# Altium schematic symbol library dungvh03-CERN_AnalogInterface.SchLib: 1053 symbols (part 8 of 12)
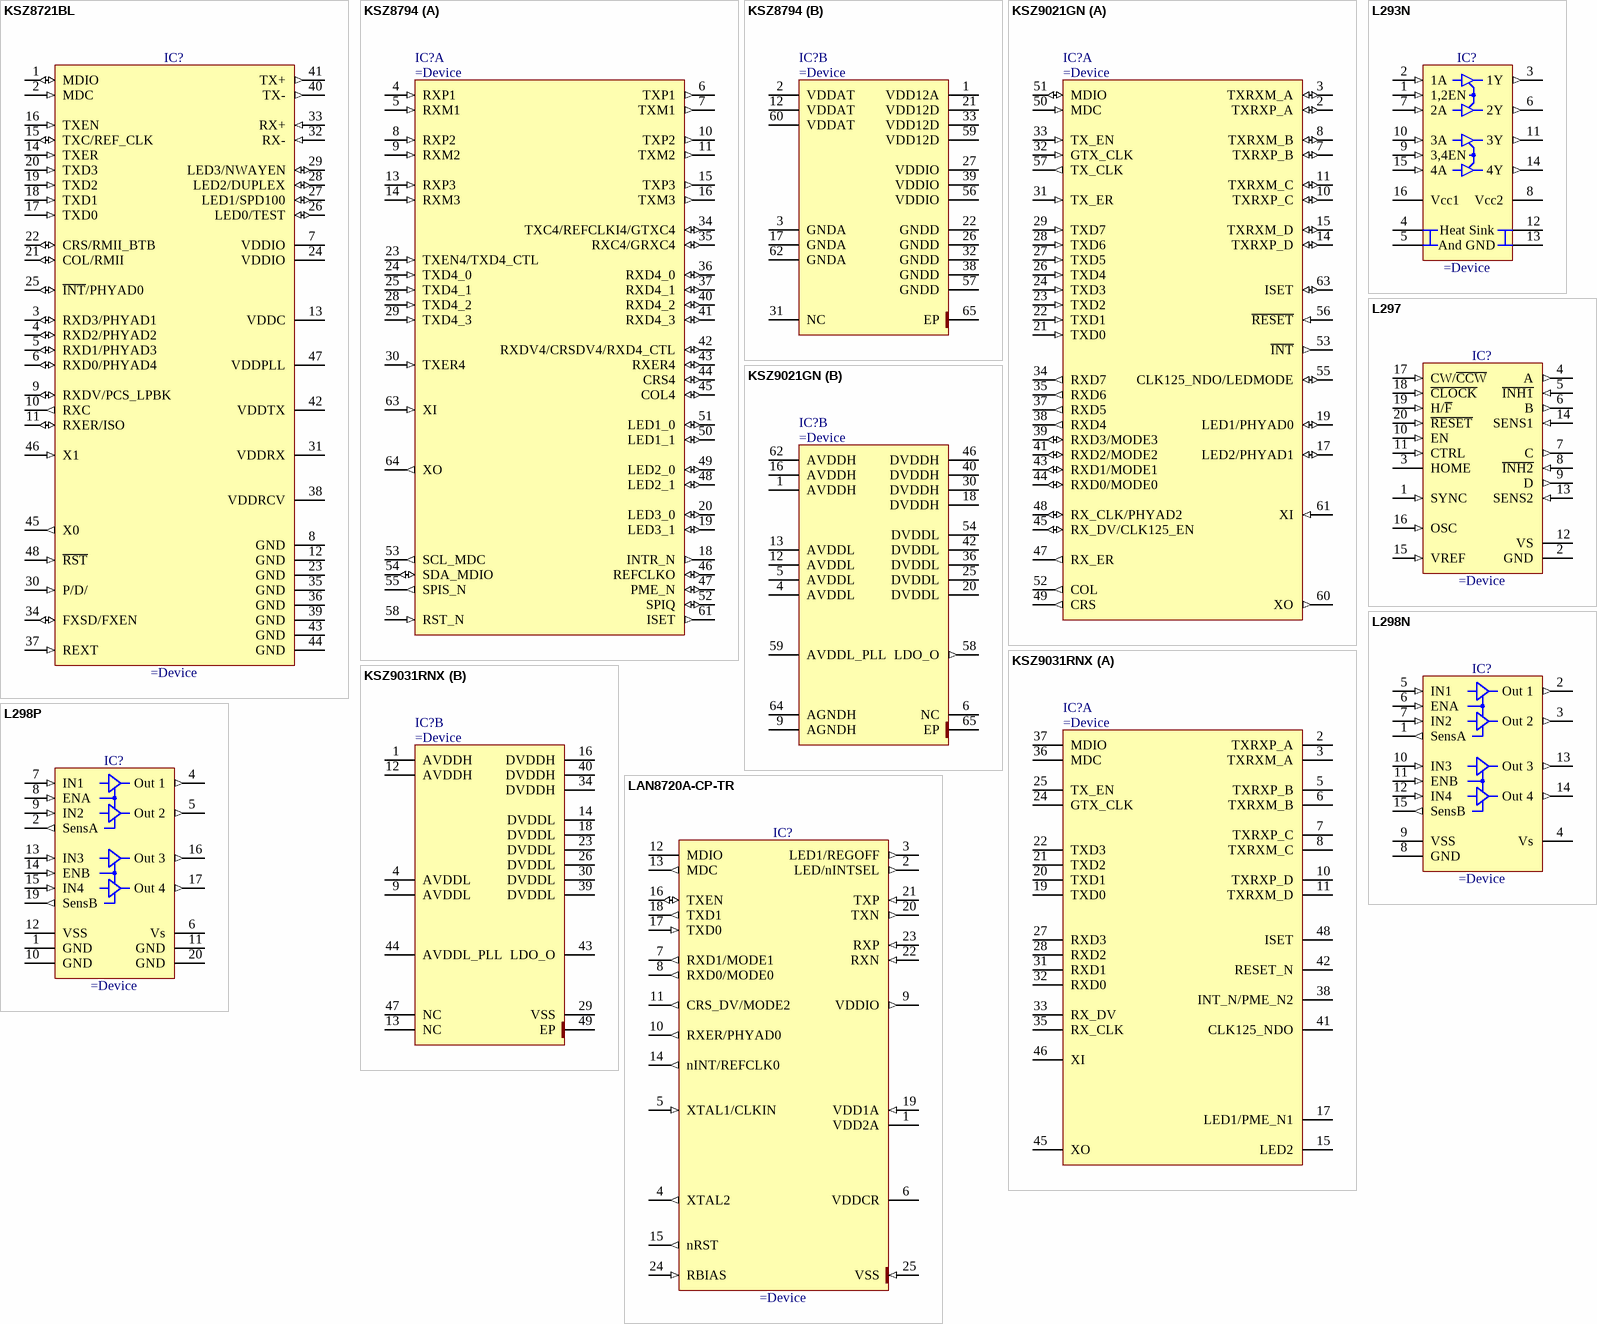
[diagram p74: symbols KSZ8721BL to LAN8720A-CP-TR]

## KSZ8721BL
designator IC?
3.3V Single Power Supply 10/100BASE-TX/FX MII Physical Layer Transceiver
pins: 1 MDIO (io), 2 MDC (in), 3 RXD3/PHYAD1 (io), 4 RXD2/PHYAD2 (io), 5 RXD1/PHYAD3 (io), 6 RXD0/PHYAD4 (io), 7 VDDIO (power), 8 GND (power), 9 RXDV/PCS_LPBK (io), 10 RXC (out), 11 RXER/ISO (io), 12 GND (power), 13 VDDC (power), 14 TXER (in), 15 TXC/REF_CLK (io), 16 TXEN (in), 17 TXD0 (in), 18 TXD1 (in), 19 TXD2 (in), 20 TXD3 (in), 21 COL/RMII (io), 22 CRS/RMII_BTB (io), 23 GND (power), 24 VDDIO (power), 25 ~{INT}/PHYAD0 (io), 26 LED0/TEST (io), 27 LED1/SPD100 (io), 28 LED2/DUPLEX (io), 29 LED3/NWAYEN (io), 30 P/D/ (in), 31 VDDRX (power), 32 RX- (in), 33 RX+ (in), 34 FXSD/FXEN (io), 35 GND (power), 36 GND (power), 37 REXT (in), 38 VDDRCV (power), 39 GND (power), 40 TX- (out), 41 TX+ (out), 42 VDDTX (power), 43 GND (power), 44 GND (power), 45 X0 (out), 46 X1 (in), 47 VDDPLL (power), 48 ~{RST} (in)

## KSZ8794
designator IC?
Gigabit Ethernet Tranceiver With GMII / MII Support
part A pins: 4 RXP1 (in), 5 RXM1 (in), 6 TXP1 (out), 7 TXM1 (out), 8 RXP2 (in), 9 RXM2 (in), 10 TXP2 (out), 11 TXM2 (out), 13 RXP3 (in), 14 RXM3 (in), 15 TXP3 (out), 16 TXM3 (out), 18 INTR_N (out), 19 LED3_1 (io), 20 LED3_0 (io), 23 TXEN4/TXD4_CTL (in), 24 TXD4_0 (in), 25 TXD4_1 (in), 28 TXD4_2 (in), 29 TXD4_3 (in), 30 TXER4 (in), 34 TXC4/REFCLKI4/GTXC4 (io), 35 RXC4/GRXC4 (io), 36 RXD4_0 (io), 37 RXD4_1 (io), 40 RXD4_2 (io), 41 RXD4_3 (io), 42 RXDV4/CRSDV4/RXD4_CTL (io), 43 RXER4 (io), 44 CRS4 (io), 45 COL4 (io), 46 REFCLKO (io), 47 PME_N (io), 48 LED2_1 (io), 49 LED2_0 (io), 50 LED1_1 (io), 51 LED1_0 (io), 52 SPIQ (io), 53 SCL_MDC (out), 54 SDA_MDIO (io), 55 SPIS_N (out), 58 RST_N (in), 61 ISET (out), 63 XI (in), 64 XO (out)
part B pins: 1 VDD12A (power), 2 VDDAT (power), 3 GNDA (power), 12 VDDAT (power), 17 GNDA (power), 21 VDD12D (power), 22 GNDD (power), 26 GNDD (power), 27 VDDIO (power), 31 NC, 32 GNDD (power), 33 VDD12D (power), 38 GNDD (power), 39 VDDIO (power), 56 VDDIO (power), 57 GNDD (power), 59 VDD12D (power), 60 VDDAT (power), 62 GNDA (power), 65 EP (power)

## KSZ9021GN
designator IC?
Gigabit Ethernet Transceiver With GMII / MII Support
part A pins: 2 TXRXP_A (io), 3 TXRXM_A (io), 7 TXRXP_B (io), 8 TXRXM_B (io), 10 TXRXP_C (io), 11 TXRXM_C (io), 14 TXRXP_D (io), 15 TXRXM_D (io), 17 LED2/PHYAD1 (io), 19 LED1/PHYAD0 (io), 21 TXD0 (in), 22 TXD1 (in), 23 TXD2 (in), 24 TXD3 (in), 26 TXD4 (in), 27 TXD5 (in), 28 TXD6 (in), 29 TXD7 (in), 31 TX_ER (in), 32 GTX_CLK (in), 33 TX_EN (in), 34 RXD7 (out), 35 RXD6 (out), 37 RXD5 (out), 38 RXD4 (out), 39 RXD3/MODE3 (io), 41 RXD2/MODE2 (io), 43 RXD1/MODE1 (io), 44 RXD0/MODE0 (io), 45 RX_DV/CLK125_EN (io), 47 RX_ER (out), 48 RX_CLK/PHYAD2 (io), 49 CRS (out), 50 MDC (in), 51 MDIO (io), 52 COL (out), 53 ~{INT} (out), 55 CLK125_NDO/LEDMODE (io), 56 ~{RESET} (in), 57 TX_CLK (out), 60 XO (out), 61 XI (in), 63 ISET (io)
part B pins: 1 AVDDH (power), 4 AVDDL (power), 5 AVDDL (power), 6 NC, 9 AGNDH (power), 12 AVDDL (power), 13 AVDDL (power), 16 AVDDH (power), 18 DVDDH (power), 20 DVDDL (power), 25 DVDDL (power), 30 DVDDH (power), 36 DVDDL (power), 40 DVDDH (power), 42 DVDDL (power), 46 DVDDH (power), 54 DVDDL (power), 58 LDO_O (out), 59 AVDDL_PLL (power), 62 AVDDH (power), 64 AGNDH (power), 65 EP (power)

## KSZ9031RNX
designator IC?
Gigabit Ethernet Transceiver With RGMII Support
part A pins: 2 TXRXP_A, 3 TXRXM_A, 5 TXRXP_B, 6 TXRXM_B, 7 TXRXP_C, 8 TXRXM_C, 10 TXRXP_D, 11 TXRXM_D, 15 LED2, 17 LED1/PME_N1, 19 TXD0, 20 TXD1, 21 TXD2, 22 TXD3, 24 GTX_CLK, 25 TX_EN, 27 RXD3, 28 RXD2, 31 RXD1, 32 RXD0, 33 RX_DV, 35 RX_CLK, 36 MDC, 37 MDIO, 38 INT_N/PME_N2, 41 CLK125_NDO, 42 RESET_N, 45 XO, 46 XI, 48 ISET
part B pins: 1 AVDDH, 4 AVDDL, 9 AVDDL, 12 AVDDH, 13 NC, 14 DVDDL, 16 DVDDH, 18 DVDDL, 23 DVDDL, 26 DVDDL, 29 VSS, 30 DVDDL, 34 DVDDH, 39 DVDDL, 40 DVDDH, 43 LDO_O, 44 AVDDL_PLL, 47 NC, 49 EP (power)

## L293N
designator IC?
Quadruple Half-H Drivers
pins: 1 1,2EN (in), 2 1A (in), 3 1Y (out), 4 HS GND (power), 5 HS GND (power), 6 2Y (out), 7 2A (in), 8 Vcc2 (power), 9 3,4EN (in), 10 3A (in), 11 3Y (out), 12 HS GND (power), 13 HS GND (power), 14 4Y (out), 15 4A (in), 16 Vcc1 (power)
text: Heat Sink; And GND

## L297
designator IC?
Stepper Motor Controller
pins: 1 SYNC (in), 2 GND (power), 3 HOME (oc), 4 A (out), 5 ~{INH1} (in), 6 B (out), 7 C (out), 8 ~{INH2} (in), 9 D (out), 10 EN (in), 11 CTRL (in), 12 VS (power), 13 SENS2 (in), 14 SENS1 (in), 15 VREF (in), 16 OSC (in), 17 CW/~{CCW} (in), 18 ~{CLOCK} (in), 19 H/~{F} (in), 20 ~{RESET} (in)

## L298N
designator IC?
Dual Full-Bridge Driver
pins: 1 SensA (out), 2 Out 1 (out), 3 Out 2 (out), 4 Vs (power), 5 IN1 (in), 6 ENA (in), 7 IN2 (in), 8 GND (power), 9 VSS (power), 10 IN3 (in), 11 ENB (in), 12 IN4 (in), 13 Out 3 (out), 14 Out 4 (out), 15 SensB (out)

## L298P
designator IC?
Dual Full-Bridge Driver
pins: 1 GND (power), 2 SensA (out), 4 Out 1 (out), 5 Out 2 (out), 6 Vs (power), 7 IN1 (in), 8 ENA (in), 9 IN2 (in), 10 GND (power), 11 GND (power), 12 VSS (power), 13 IN3 (in), 14 ENB (in), 15 IN4 (in), 16 Out 3 (out), 17 Out 4 (out), 19 SensB (out), 20 GND (power)

## LAN8720A-CP-TR
designator IC?
Small Footprint RMII 10/100 Ethernet Transceiver with HP Auto-MDIX
pins: 1 VDD2A (power), 2 LED/nINTSEL (out), 3 LED1/REGOFF (out), 4 XTAL2 (out), 5 XTAL1/CLKIN (in), 6 VDDCR (power), 7 RXD1/MODE1 (out), 8 RXD0/MODE0 (out), 9 VDDIO (out), 10 RXER/PHYAD0 (out), 11 CRS_DV/MODE2 (out), 12 MDIO (power), 13 MDC (out), 14 nINT/REFCLK0 (out), 15 nRST (out), 16 TXEN (io), 17 TXD0 (in), 18 TXD1 (out), 19 VDD1A (in), 20 TXN (out), 21 TXP (in), 22 RXN (in), 23 RXP (in), 24 RBIAS (in), 25 VSS (in)

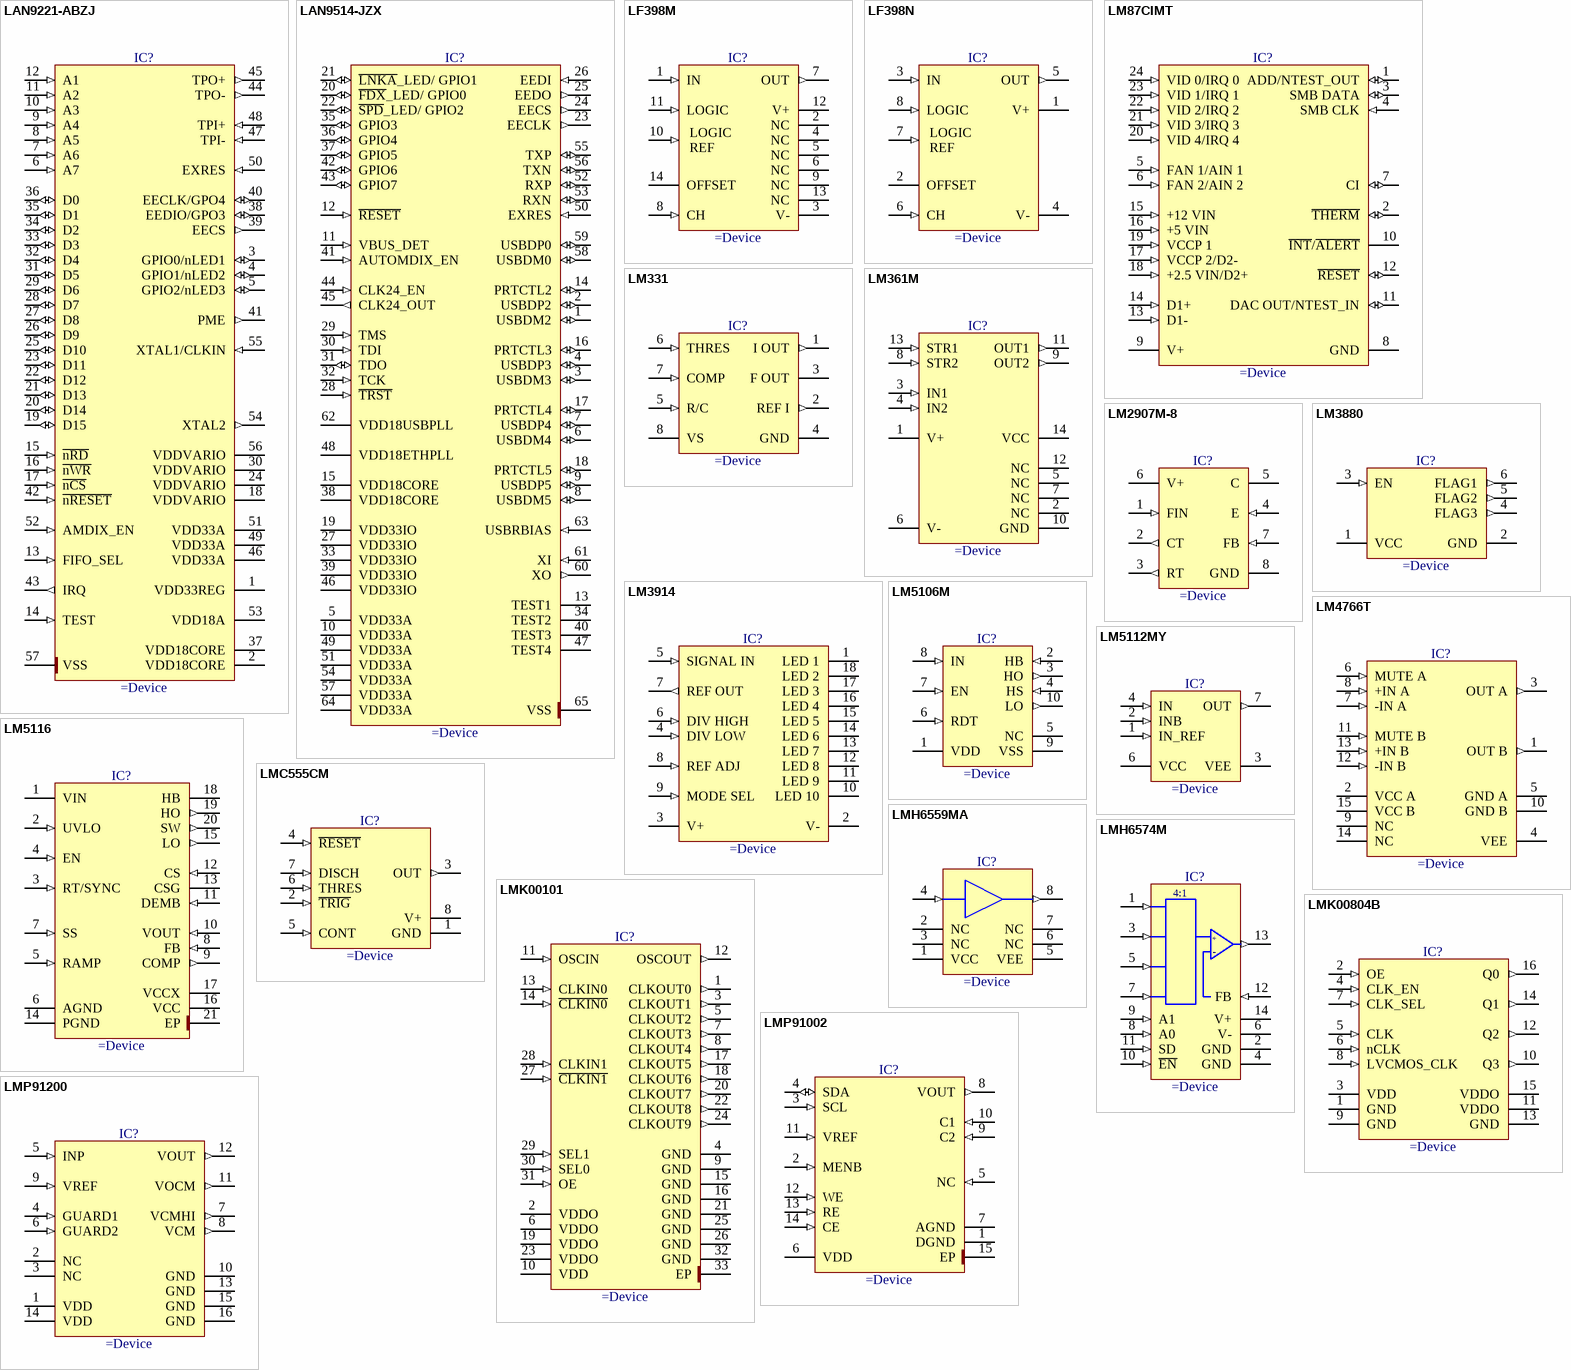
[diagram p40: symbols LAN9221-ABZJ to LMP91200]

## LAN9221-ABZJ
designator IC?
High-Performance 16-bit Non-PCI 10/100 Ethernet Controller with Variable Voltage I/O
pins: 1 VDD33REG (power), 2 VDD18CORE (power), 3 GPIO0/nLED1 (io), 4 GPIO1/nLED2 (io), 5 GPIO2/nLED3 (io), 6 A7 (in), 7 A6 (in), 8 A5 (in), 9 A4 (in), 10 A3 (in), 11 A2 (in), 12 A1 (in), 13 FIFO_SEL (in), 14 TEST (in), 15 ~{nRD} (in), 16 ~{nWR} (in), 17 ~{nCS} (in), 18 VDDVARIO (power), 19 D15 (io), 20 D14 (io), 21 D13 (io), 22 D12 (io), 23 D11 (io), 24 VDDVARIO (power), 25 D10 (io), 26 D9 (io), 27 D8 (io), 28 D7 (io), 29 D6 (io), 30 VDDVARIO (power), 31 D5 (io), 32 D4 (io), 33 D3 (io), 34 D2 (io), 35 D1 (io), 36 D0 (io), 37 VDD18CORE (power), 38 EEDIO/GPO3 (io), 39 EECS (out), 40 EECLK/GPO4 (io), 41 PME (out), 42 ~{nRESET} (in), 43 IRQ (out), 44 TPO- (out), 45 TPO+ (out), 46 VDD33A (power), 47 TPI- (in), 48 TPI+ (in), 49 VDD33A (power), 50 EXRES (in), 51 VDD33A (power), 52 AMDIX_EN (in), 53 VDD18A (power), 54 XTAL2 (out), 55 XTAL1/CLKIN (in), 56 VDDVARIO (power), 57 VSS (power)

## LAN9514-JZX
designator IC?
USB 2.0 Hub and 10/100 Ethernet Controller
pins: 1 USBDM2 (io), 2 USBDP2 (io), 3 USBDM3 (io), 4 USBDP3 (io), 5 VDD33A (power), 6 USBDM4 (io), 7 USBDP4 (io), 8 USBDM5 (io), 9 USBDP5 (io), 10 VDD33A (power), 11 VBUS_DET (in), 12 ~{RESET} (in), 13 TEST1, 14 PRTCTL2 (io), 15 VDD18CORE (power), 16 PRTCTL3 (io), 17 PRTCTL4 (io), 18 PRTCTL5 (io), 19 VDD33IO (power), 20 ~{FDX}_LED/ GPIO0 (io), 21 ~{LNKA}_LED/ GPIO1 (io), 22 ~{SPD}_LED/ GPIO2 (io), 23 EECLK (out), 24 EECS (out), 25 EEDO (out), 26 EEDI (in), 27 VDD33IO (power), 28 ~{TRST} (in), 29 TMS (in), 30 TDI (in), 31 TDO (io), 32 TCK (in), 33 VDD33IO (power), 34 TEST2, 35 GPIO3 (io), 36 GPIO4 (io), 37 GPIO5 (io), 38 VDD18CORE (power), 39 VDD33IO (power), 40 TEST3, 41 AUTOMDIX_EN (in), 42 GPIO6 (io), 43 GPIO7 (io), 44 CLK24_EN (in), 45 CLK24_OUT (out), 46 VDD33IO (power), 47 TEST4, 48 VDD18ETHPLL (power), 49 VDD33A (power), 50 EXRES (in), 51 VDD33A (power), 52 RXP (io), 53 RXN (io), 54 VDD33A (power), 55 TXP (io), 56 TXN (io), 57 VDD33A (power), 58 USBDM0 (io), 59 USBDP0 (io), 60 XO (out), 61 XI (in), 62 VDD18USBPLL (power), 63 USBRBIAS (in), 64 VDD33A (power), 65 VSS (power)

## LF398M
designator IC?
Monolithic Sample-and-Hold Circuit
pins: 1 IN (in), 2 NC, 3 V- (power), 4 NC, 5 NC, 6 NC, 7 OUT (out), 8 CH (in), 9 NC, 10 LOGICREF (in), 11 LOGIC (in), 12 V+ (power), 13 NC, 14 OFFSET (power)
text: REF

## LF398N
designator IC?
Monolithic Sample-and-Hold Circuit
pins: 1 V+ (power), 2 OFFSET (power), 3 IN (in), 4 V- (power), 5 OUT (out), 6 CH (in), 7 LOGICREF (in), 8 LOGIC (in)
text: REF

## LM87CIMT
designator IC?
Serial Interface System Hardware Monitor With Remote Diode Temperature Sensing
pins: 1 ADD/NTEST_OUT (io), 2 ~{THERM} (io), 3 SMB DATA (io), 4 SMB CLK (in), 5 FAN 1/AIN 1 (in), 6 FAN 2/AIN 2 (in), 7 CI (io), 8 GND (power), 9 V+ (power), 10 ~{INT}/~{ALERT} (oe), 11 DAC OUT/NTEST_IN (io), 12 ~{RESET} (io), 13 D1- (in), 14 D1+ (in), 15 +12 VIN (in), 16 +5 VIN (in), 17 VCCP 2/D2- (in), 18 +2.5 VIN/D2+ (in), 19 VCCP 1 (in), 20 VID 4/IRQ 4 (in), 21 VID 3/IRQ 3 (in), 22 VID 2/IRQ 2 (in), 23 VID 1/IRQ 1 (in), 24 VID 0/IRQ 0 (in)

## LM331
designator IC?
Precision Voltage-to-Frequency Converter
pins: 1 I OUT (out), 2 REF I (out) "Timming Capacitor", 3 F OUT (oc) "Timming Resistor", 4 GND (power), 5 R/C (in), 6 THRES (in), 7 COMP (in) "Feedback", 8 VS (power)

## LM361M
designator IC?
High Speed Differential Comparator
pins: 1 V+ (power), 2 NC, 3 IN1 (in), 4 IN2 (in), 5 NC, 6 V- (power), 7 NC, 8 STR2 (in), 9 OUT2 (out), 10 GND (power), 11 OUT1 (out), 12 NC, 13 STR1 (in), 14 VCC (power)

## LM2907M-8
designator IC?
Frequency to Voltage Converter
pins: 1 FIN (in), 2 CT (out) "Timming Capacitor", 3 RT (out) "Timming Resistor", 4 E (in), 5 C (power), 6 V+ (power), 7 FB (in) "Feedback", 8 GND (power)

## LM3880
designator IC?
Simple Power Sequencer
pins: 1 VCC (power), 2 GND (power), 3 EN (in), 4 FLAG3 (out), 5 FLAG2 (out), 6 FLAG1 (out)

## LM3914
designator IC?
Dot/Bar Display Driver
pins: 1 LED 1 (oc), 2 V- (power), 3 V+ (power), 4 DIV LOW (in), 5 SIGNAL IN (in), 6 DIV HIGH (in), 7 REF OUT (out), 8 REF ADJ (in), 9 MODE SEL (in), 10 LED 10 (oc), 11 LED 9 (oc), 12 LED 8 (oc), 13 LED 7 (oc), 14 LED 6 (oc), 15 LED 5 (oc), 16 LED 4 (oc), 17 LED 3 (oc), 18 LED 2 (oc)

## LM4766T
designator IC?
Dual 40W Audio Power Amplifier with Mute
pins: 1 OUT B (out), 2 VCC A (power), 3 OUT A (out), 4 VEE (power), 5 GND A (power), 6 MUTE A (in), 7 -IN A (in), 8 +IN A (in), 9 NC, 10 GND B (power), 11 MUTE B (in), 12 -IN B (in), 13 +IN B (in), 14 NC, 15 VCC B (power)

## LM5106M
designator IC?
Half-Bridge Gate Driver With Programmable Dead-Time
pins: 1 VDD (power), 2 HB (in), 3 HO (out), 4 HS (in), 5 NC, 6 RDT (in), 7 EN (in), 8 IN (in), 9 VSS (power), 10 LO (out)

## LM5112MY
designator IC?
Tiny 7A MOSFET Gate Driver
pins: 1 IN_REF (in), 2 INB (in), 3 VEE (power), 4 IN (in), 6 VCC (power), 7 OUT (out)

## LM5116
designator IC?
Wide Range Synchronous Buck Controller
pins: 1 VIN (power), 2 UVLO (in), 3 RT/SYNC (in), 4 EN (in), 5 RAMP (in), 6 AGND (power), 7 SS (in), 8 FB (in), 9 COMP (out), 10 VOUT (in), 11 DEMB (in), 12 CS (in), 13 CSG (power), 14 PGND (power), 15 LO (out), 16 VCC (power), 17 VCCX (power), 18 HB (power), 19 HO (out), 20 SW (out), 21 EP (power)

## LMC555CM
designator IC?
CMOS Timer
pins: 1 GND (power), 2 ~{TRIG} (in), 3 OUT (out), 4 ~{RESET} (in), 5 CONT (in), 6 THRES (in), 7 DISCH (in), 8 V+ (power)

## LMH6559MA
designator IC?
High-Speed, Closed-Loop Buffer
pins: 1 VCC (power), 2 NC, 3 NC, 4 VIN (in), 5 VEE (power), 6 NC, 7 NC, 8 VOUT (out)

## LMH6574M
designator IC?
4:1 High Speed Video Multiplexer
pins: 1 IN0 (in), 2 GND (power), 3 IN1 (in), 4 GND (power), 5 IN2 (in), 6 V- (power), 7 IN3 (in), 8 A0 (in), 9 A1 (in), 10 ~{EN} (in), 11 SD (in), 12 FB (in), 13 OUT (out), 14 V+ (power)
text: 4:1; +; -

## LMK00101
designator IC?
Ultra-Low Jitter LVCMOS Fanout Buffer/Level Translator With Universal Input
pins: 1 CLKOUT0 (out), 2 VDDO (power), 3 CLKOUT1 (out), 4 GND (power), 5 CLKOUT2 (out), 6 VDDO (power), 7 CLKOUT3 (out), 8 CLKOUT4 (out), 9 GND (power), 10 VDD (power), 11 OSCIN (in), 12 OSCOUT (out), 13 CLKIN0 (in), 14 ~{CLKIN0} (in), 15 GND (power), 16 GND (power), 17 CLKOUT5 (out), 18 CLKOUT6 (out), 19 VDDO (power), 20 CLKOUT7 (out), 21 GND (power), 22 CLKOUT8 (out), 23 VDDO (power), 24 CLKOUT9 (out), 25 GND (power), 26 GND (power), 27 ~{CLKIN1} (in), 28 CLKIN1 (in), 29 SEL1 (in), 30 SEL0 (in), 31 OE (in), 32 GND (power), 33 EP (power)

## LMK00804B
designator IC?
Low Skew, 1-to-4 Multiplexed Differential/LVCMOS-to-LVCMOS/TTL Fanout Buffer
pins: 1 GND (power), 2 OE (in), 3 VDD (power), 4 CLK_EN (in), 5 CLK (in), 6 nCLK (in), 7 CLK_SEL (in), 8 LVCMOS_CLK (in), 9 GND (power), 10 Q3 (out), 11 VDDO (power), 12 Q2 (out), 13 GND (power), 14 Q1 (out), 15 VDDO (power), 16 Q0 (out)

## LMP91002
designator IC?
Configurable AFE Potentiostat For Low-Power Chemical Sensing Applications
pins: 1 DGND (power), 2 MENB (in) "Feedback", 3 SCL (in), 4 SDA (io), 5 NC (in), 6 VDD (power) "Timming Resistor", 7 AGND (power) "Timming Capacitor", 8 VOUT (out), 9 C2 (in), 10 C1 (in) "Feedback", 11 VREF (in), 12 WE (in), 13 RE (in), 14 CE (in) "Timming Resistor", 15 EP (power) "Timming Capacitor"

## LMP91200
designator IC?
Configurable AFE For Low-Power Chemical-Sensing Applications
pins: 1 VDD (power), 2 NC "Feedback", 3 NC, 4 GUARD1 (in), 5 INP (in), 6 GUARD2 (in) "Timming Resistor", 7 VCMHI (out) "Timming Capacitor", 8 VCM (out), 9 VREF (in), 10 GND (power) "Feedback", 11 VOCM (out), 12 VOUT (out), 13 GND (power), 14 VDD (power) "Timming Resistor", 15 GND (power) "Timming Capacitor", 16 GND (power)

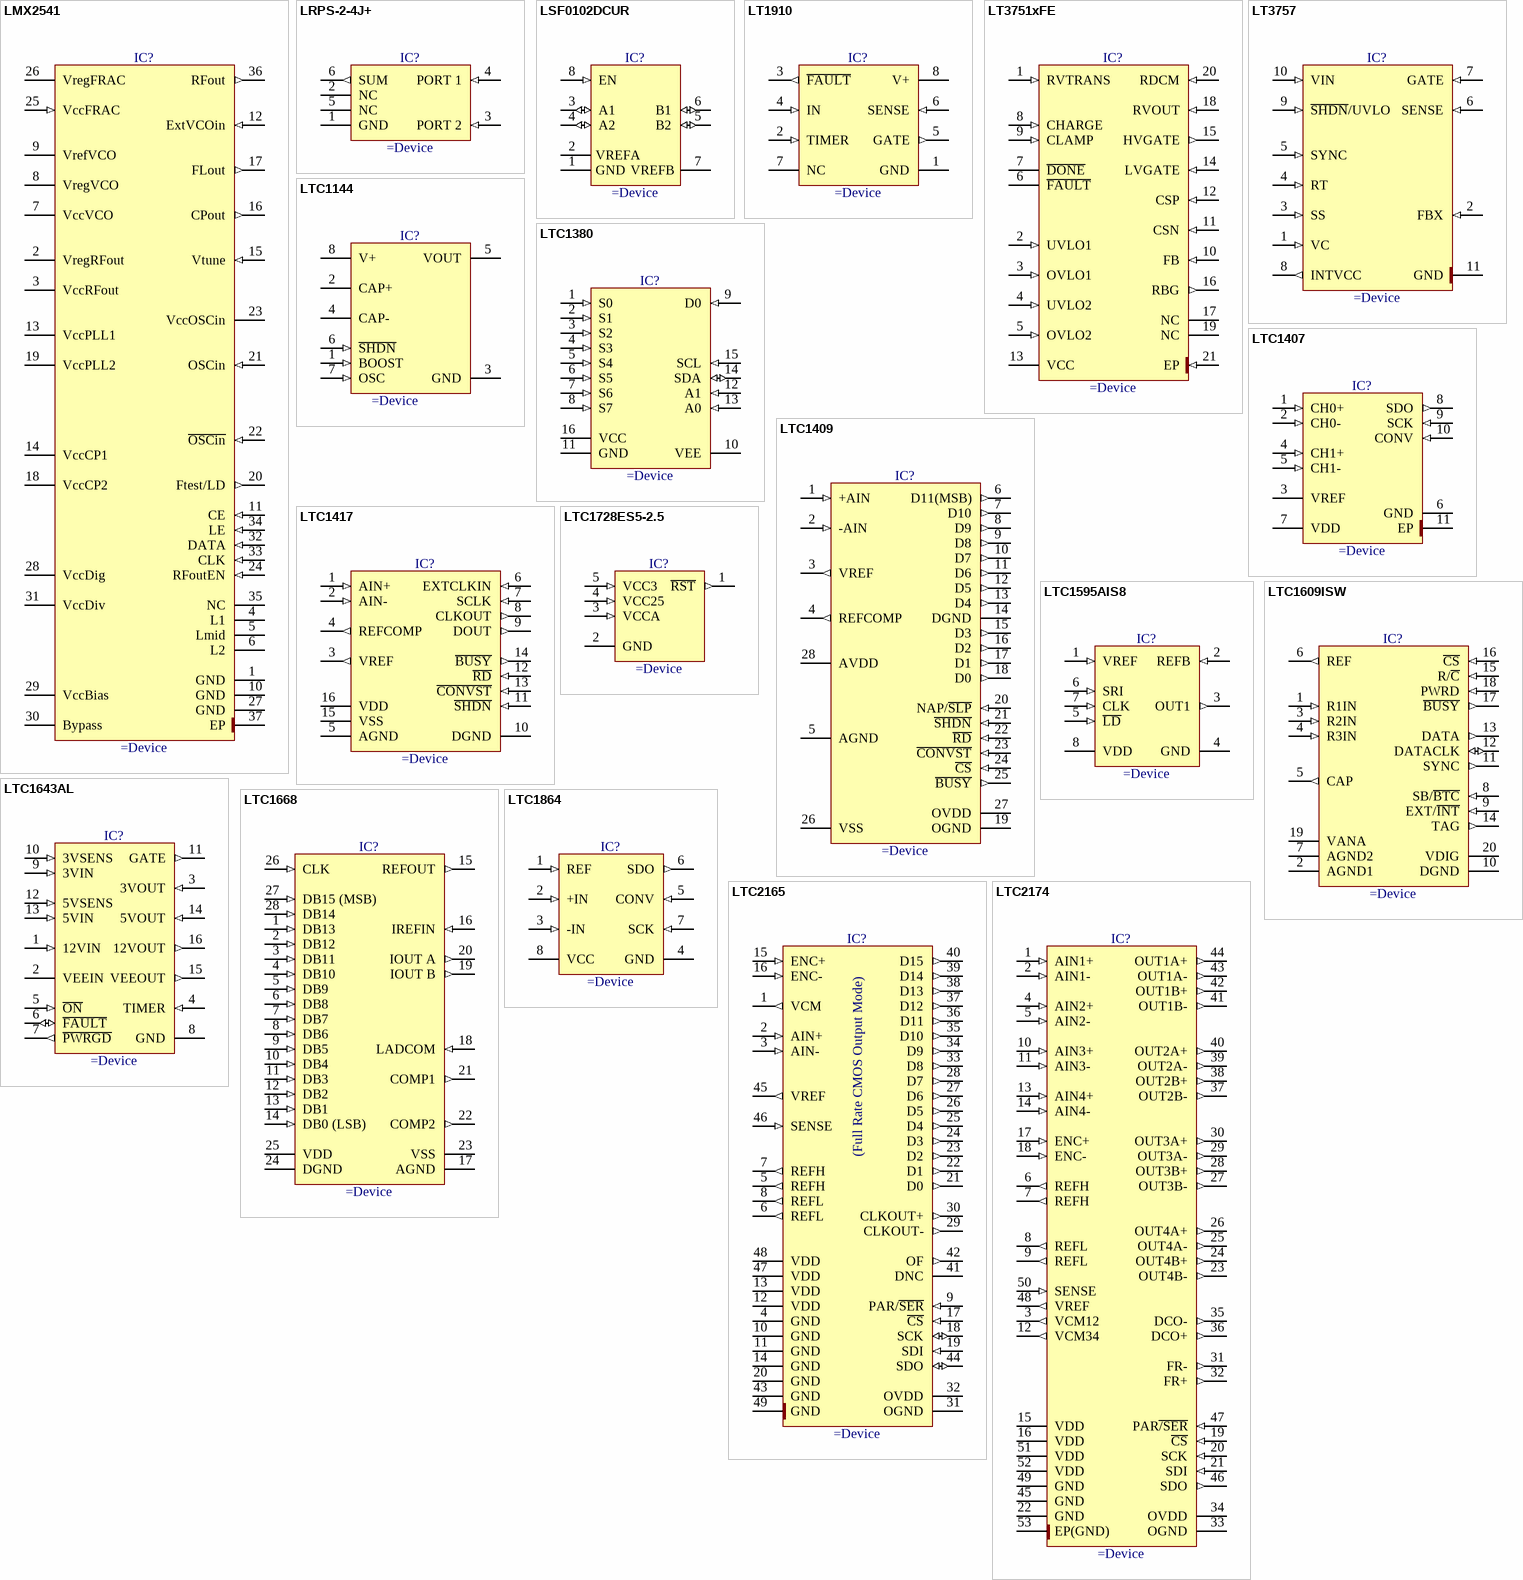
[diagram p41: symbols LMX2541 to LTC2174]

## LMX2541
designator IC?
Ultra-Low Noise PLLatinum Frequency Synthesizer with Integrated VCO
pins: 1 GND (power), 2 VregRFout (power), 3 VccRFout (power), 4 L1, 5 Lmid, 6 L2, 7 VccVCO (power), 8 VregVCO (power), 9 VrefVCO, 10 GND (power), 11 CE (in), 12 ExtVCOin (in), 13 VccPLL1 (power), 14 VccCP1 (power), 15 Vtune (in), 16 CPout (out), 17 FLout (out), 18 VccCP2 (power), 19 VccPLL2 (power), 20 Ftest/LD (out), 21 OSCin (in), 22 ~{OSCin} (in), 23 VccOSCin (power), 24 RFoutEN (in), 25 VccFRAC (in), 26 VregFRAC (power), 27 GND (power), 28 VccDig (power), 29 VccBias (power), 30 Bypass, 31 VccDiv (power), 32 DATA (in), 33 CLK (in), 34 LE (in), 35 NC, 36 RFout (out), 37 EP (power)

## LRPS-2-4J+
designator IC?
2 Way-0°, 50 Ohms, 10 to 1000MHz Power Splitter/Combiner
pins: 1 GND (power), 2 NC, 3 PORT 2 (in), 4 PORT 1 (in), 5 NC, 6 SUM (out)

## LSF0102DCUR
designator IC?
2 Channel Bidirectional Multi-Voltage Level Translator for Open-Drain and Push-Pull Application
pins: 1 GND (power) "Ground", 2 VREFA (power) "A-port supply voltage", 3 A1 (io) "Input/output 1", 4 A2 (io) "Input/output 2", 5 B2 (io) "Input/output 2", 6 B1 (io) "Input/output 1", 7 VREFB (power) "B-port supply voltage", 8 EN (in) "3-state output-mode enable"

## LT1910
designator IC?
Protected High Side MOSFET Driver
pins: 1 GND (power), 2 TIMER (in), 3 ~{FAULT} (out), 4 IN (in), 5 GATE (out), 6 SENSE (in), 7 NC, 8 V+ (power)

## LT3751xFE
designator IC?
High Voltage Capacitor Charger Controller with Regulation
pins: 1 RVTRANS (in), 2 UVLO1 (in), 3 OVLO1 (in), 4 UVLO2 (in), 5 OVLO2 (in), 6 ~{FAULT} (oc), 7 ~{DONE} (oc), 8 CHARGE (in), 9 CLAMP (in), 10 FB (in), 11 CSN (in), 12 CSP (in), 13 VCC (power), 14 LVGATE (in), 15 HVGATE (out), 16 RBG (out), 17 NC, 18 RVOUT (in), 19 NC, 20 RDCM (in), 21 EP (in)

## LT3757
designator IC?
Boost, Flyback, SEPIC And Inverting Controller
pins: 1 VC (in), 2 FBX (in), 3 SS (in), 4 RT (in), 5 SYNC (in), 6 SENSE (in), 7 GATE (in), 8 INTVCC (out), 9 ~{SHDN}/UVLO (in), 10 VIN (in), 11 GND (power)

## LTC1144
designator IC?
Switched-Capacitor 15V Input to -18V to -2V Output, 50mA, Voltage Converter with Shutdown
pins: 1 BOOST (in), 2 CAP+, 3 GND (power), 4 CAP-, 5 VOUT (power), 6 ~{SHDN} (in), 7 OSC (in), 8 V+ (power)

## LTC1380
designator IC?
Single-Ended 8-Channel Analog Multiplexer with SMBus Interface
pins: 1 S0 (in), 2 S1 (in), 3 S2 (in), 4 S3 (in), 5 S4 (in), 6 S5 (in), 7 S6 (in), 8 S7 (in), 9 D0 (in), 10 VEE (power), 11 GND (power), 12 A1 (in), 13 A0 (in), 14 SDA (io), 15 SCL (in), 16 VCC (power)

## LTC1407
designator IC?
Serial 12-Bit, 3Msps Simultaneous Sampling ADC with Shutdown
pins: 1 CH0+ (in), 2 CH0- (in), 3 VREF, 4 CH1+ (in), 5 CH1- (in), 6 GND (power), 7 VDD (power), 8 SDO (out), 9 SCK (in), 10 CONV (in), 11 EP (power)

## LTC1409
designator IC?
12-Bit, 800ksps Sampling ADC with Shutdown
pins: 1 +AIN (in), 2 -AIN (in), 3 VREF (out), 4 REFCOMP (out), 5 AGND (power), 6 D11(MSB) (out), 7 D10 (out), 8 D9 (out), 9 D8 (out), 10 D7 (out), 11 D6 (out), 12 D5 (out), 13 D4 (out), 14 DGND (power), 15 D3 (out), 16 D2 (out), 17 D1 (out), 18 D0 (out), 19 OGND (power), 20 NAP/~{SLP} (in), 21 ~{SHDN} (in), 22 ~{RD} (in), 23 ~{CONVST} (in), 24 ~{CS} (in), 25 ~{BUSY} (out), 26 VSS (power), 27 OVDD (power), 28 AVDD (power)

## LTC1417
designator IC?
Low Power 14-Bit, 400ksps Sampling ADC Converter with Serial I/O
pins: 1 AIN+ (in), 2 AIN- (in), 3 VREF (out), 4 REFCOMP (out), 5 AGND (power), 6 EXTCLKIN (in), 7 SCLK (in), 8 CLKOUT (out), 9 DOUT (out), 10 DGND (power), 11 ~{SHDN} (in), 12 ~{RD} (in), 13 ~{CONVST} (in), 14 ~{BUSY} (out), 15 VSS (power), 16 VDD (power)

## LTC1595AIS8
designator IC?
Serial 16-Bit Multiplying DAC
pins: 1 VREF (in), 2 REFB (in), 3 OUT1 (out), 4 GND (power), 5 ~{LD} (in), 6 SRI (in), 7 CLK (in), 8 VDD (power)

## LTC1609ISW
designator IC?
16-Bit, 200ksps, Serial ADC With Multiple Input Ranges
pins: 1 R1IN (in), 2 AGND1 (power), 3 R2IN (in), 4 R3IN (in), 5 CAP (out), 6 REF (out), 7 AGND2 (power), 8 SB/~{BTC} (in), 9 EXT/~{INT} (in), 10 DGND (power), 11 SYNC (out), 12 DATACLK (io), 13 DATA (out), 14 TAG (out), 15 R/~{C} (in), 16 ~{CS} (in), 17 ~{BUSY} (out), 18 PWRD (in), 19 VANA (power), 20 VDIG (power)

## LTC1643AL
designator IC?
PCI-Bus Hot Swap Controller
pins: 1 12VIN (in), 2 VEEIN (power), 3 3VOUT (in), 4 TIMER (in), 5 ~{ON} (in), 6 ~{FAULT} (io), 7 ~{PWRGD} (out), 8 GND (power), 9 3VIN (in), 10 3VSENS (in), 11 GATE (out), 12 5VSENS (in), 13 5VIN (in), 14 5VOUT (in), 15 VEEOUT (out), 16 12VOUT (out)

## LTC1668
designator IC?
16-Bit, 50Msps Differential Current Output DAC
pins: 1 DB13 (in), 2 DB12 (in), 3 DB11 (in), 4 DB10 (in), 5 DB9 (in), 6 DB8 (in), 7 DB7 (in), 8 DB6 (in), 9 DB5 (in), 10 DB4 (in), 11 DB3 (in), 12 DB2 (in), 13 DB1 (in), 14 DB0 (LSB) (in), 15 REFOUT (out), 16 IREFIN (in), 17 AGND (power), 18 LADCOM (in), 19 IOUT B (out), 20 IOUT A (out), 21 COMP1 (out), 22 COMP2 (out), 23 VSS (power), 24 DGND (power), 25 VDD (power), 26 CLK (in), 27 DB15 (MSB) (in), 28 DB14 (in)

## LTC1728ES5-2.5
designator IC?
Micropower Precision (3.3V, 2.5V and Adjustable) Triple Supply Monitors In 5-Lead SOT-23 Packages
pins: 1 ~{RST} (out), 2 GND (power), 3 VCCA (in), 4 VCC25 (in), 5 VCC3 (in)

## LTC1864
designator IC?
uPower, 3V, 16-Bit, 150ksps Single Channel ADC
pins: 1 REF (in), 2 +IN (in), 3 -IN (in), 4 GND (power), 5 CONV (in), 6 SDO (out), 7 SCK (in), 8 VCC (power)

## LTC2165
designator IC?
16-Bit, 125Msps Low Power ADC (Full Rate CMOS Output Mode)
pins: 1 VCM (out), 2 AIN+ (in), 3 AIN- (in), 4 GND (power), 5 REFH (out), 6 REFL (out), 7 REFH (out), 8 REFL (out), 9 PAR/~{SER} (in), 10 GND (power), 11 GND (power), 12 VDD (power), 13 VDD (power), 14 GND (power), 15 ENC+ (in), 16 ENC- (in), 17 ~{CS} (in), 18 SCK (io), 19 SDI (in), 20 GND (power), 21 D0 (out), 22 D1 (out), 23 D2 (out), 24 D3 (out), 25 D4 (out), 26 D5 (out), 27 D6 (out), 28 D7 (out), 29 CLKOUT- (out), 30 CLKOUT+ (out), 31 OGND (power), 32 OVDD (power), 33 D8 (out), 34 D9 (out), 35 D10 (out), 36 D11 (out), 37 D12 (out), 38 D13 (out), 39 D14 (out), 40 D15 (out), 41 DNC, 42 OF (out), 43 GND (power), 44 SDO (io), 45 VREF (out), 46 SENSE (in), 47 VDD (power), 48 VDD (power), 49 GND (power)
2 alternate drawings of the same symbol
text: (Full Rate CMOS Output Mode)

## LTC2174
designator IC?
14-Bit, 105Msps Low Power Quad ADCs
pins: 1 AIN1+ (in), 2 AIN1- (in), 3 VCM12 (out), 4 AIN2+ (in), 5 AIN2- (in), 6 REFH (out), 7 REFH (out), 8 REFL (out), 9 REFL (out), 10 AIN3+ (in), 11 AIN3- (in), 12 VCM34 (out), 13 AIN4+ (in), 14 AIN4- (in), 15 VDD (power), 16 VDD (power), 17 ENC+ (in), 18 ENC- (in), 19 ~{CS} (in), 20 SCK (in), 21 SDI (in), 22 GND (power), 23 OUT4B- (out), 24 OUT4B+ (out), 25 OUT4A- (out), 26 OUT4A+ (out), 27 OUT3B- (out), 28 OUT3B+ (out), 29 OUT3A- (out), 30 OUT3A+ (out), 31 FR- (out), 32 FR+ (out), 33 OGND (power), 34 OVDD (power), 35 DCO- (out), 36 DCO+ (out), 37 OUT2B- (out), 38 OUT2B+ (out), 39 OUT2A- (out), 40 OUT2A+ (out), 41 OUT1B- (out), 42 OUT1B+ (out), 43 OUT1A- (out), 44 OUT1A+ (out), 45 GND (power), 46 SDO (out), 47 PAR~{/SER} (in), 48 VREF (out), 49 GND (power), 50 SENSE (in), 51 VDD (power), 52 VDD (power), 53 EP(GND) (power)

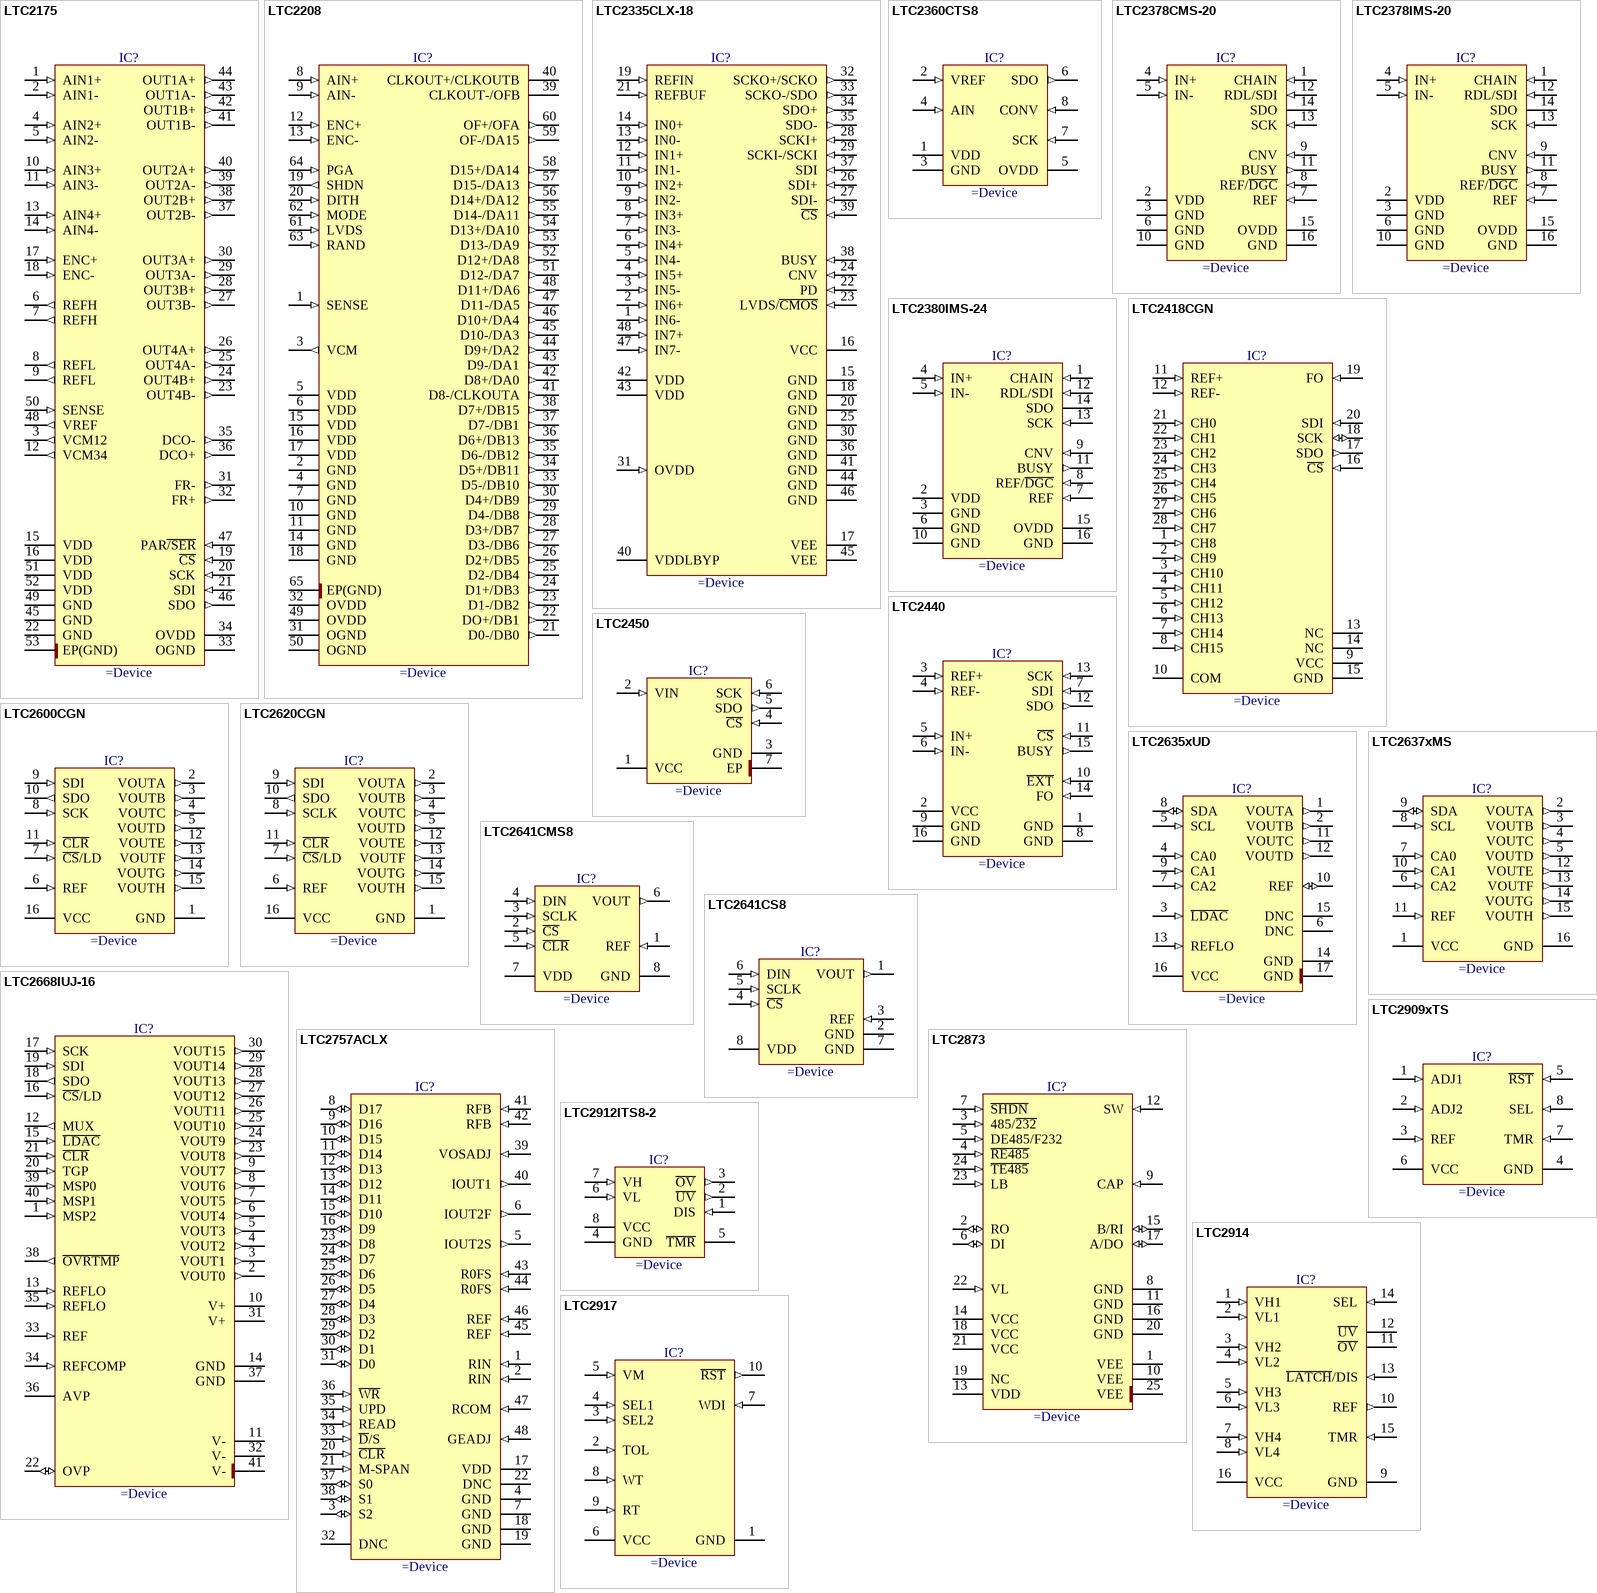
[diagram p42: symbols LTC2175 to LTC2917]

## LTC2175
designator IC?
14-Bit, 125Msps Low Power Quad ADCs
pins: 1 AIN1+ (in), 2 AIN1- (in), 3 VCM12 (out), 4 AIN2+ (in), 5 AIN2- (in), 6 REFH (out), 7 REFH (out), 8 REFL (out), 9 REFL (out), 10 AIN3+ (in), 11 AIN3- (in), 12 VCM34 (out), 13 AIN4+ (in), 14 AIN4- (in), 15 VDD (power), 16 VDD (power), 17 ENC+ (in), 18 ENC- (in), 19 ~{CS} (in), 20 SCK (in), 21 SDI (in), 22 GND (power), 23 OUT4B- (out), 24 OUT4B+ (out), 25 OUT4A- (out), 26 OUT4A+ (out), 27 OUT3B- (out), 28 OUT3B+ (out), 29 OUT3A- (out), 30 OUT3A+ (out), 31 FR- (out), 32 FR+ (out), 33 OGND (power), 34 OVDD (power), 35 DCO- (out), 36 DCO+ (out), 37 OUT2B- (out), 38 OUT2B+ (out), 39 OUT2A- (out), 40 OUT2A+ (out), 41 OUT1B- (out), 42 OUT1B+ (out), 43 OUT1A- (out), 44 OUT1A+ (out), 45 GND (power), 46 SDO (out), 47 PAR~{/SER} (in), 48 VREF (out), 49 GND (power), 50 SENSE (in), 51 VDD (power), 52 VDD (power), 53 EP(GND) (power)

## LTC2208
designator IC?
16-Bit, 130Msps ADC
pins: 1 SENSE (in), 2 GND (power), 3 VCM (out), 4 GND (power), 5 VDD (power), 6 VDD (power), 7 GND (power), 8 AIN+ (in), 9 AIN- (in), 10 GND (power), 11 GND (power), 12 ENC+ (in), 13 ENC- (in), 14 GND (power), 15 VDD (power), 16 VDD (power), 17 VDD (power), 18 GND (power), 19 SHDN (out), 20 DITH (in), 21 D0-/DB0 (out), 22 DO+/DB1 (out), 23 D1-/DB2 (out), 24 D1+/DB3 (out), 25 D2-/DB4 (out), 26 D2+/DB5 (out), 27 D3-/DB6 (out), 28 D3+/DB7 (out), 29 D4-/DB8 (out), 30 D4+/DB9 (out), 31 OGND (power), 32 OVDD (power), 33 D5-/DB10 (out), 34 D5+/DB11 (out), 35 D6-/DB12 (out), 36 D6+/DB13 (out), 37 D7-/DB1 (out), 38 D7+/DB15 (out), 39 CLKOUT-/OFB (power), 40 CLKOUT+/CLKOUTB (power), 41 D8-/CLKOUTA (out), 42 D8+/DA0 (out), 43 D9-/DA1 (out), 44 D9+/DA2 (out), 45 D10-/DA3 (out), 46 D10+/DA4 (out), 47 D11-/DA5 (out), 48 D11+/DA6 (out), 49 OVDD (power), 50 OGND (power), 51 D12-/DA7 (out), 52 D12+/DA8 (out), 53 D13-/DA9 (out), 54 D13+/DA10 (out), 55 D14-/DA11 (out), 56 D14+/DA12 (out), 57 D15-/DA13 (out), 58 D15+/DA14 (out), 59 OF-/DA15 (out), 60 OF+/OFA (out), 61 LVDS (in), 62 MODE (in), 63 RAND (in), 64 PGA (in), 65 EP(GND) (power)

## LTC2335CLX-18
designator IC?
18-Bit, 1Msps 8-Channel Differential ±10.24V Input SoftSpan ADC with Wide Input Common Mode Range
pins: 1 IN6- (in), 2 IN6+ (in), 3 IN5- (in), 4 IN5+ (in), 5 IN4- (in), 6 IN4+ (in), 7 IN3- (in), 8 IN3+ (in), 9 IN2- (in), 10 IN2+ (in), 11 IN1- (in), 12 IN1+ (in), 13 IN0- (in), 14 IN0+ (in), 15 GND (power), 16 VCC (power), 17 VEE (power), 18 GND (power), 19 REFIN (in), 20 GND (power), 21 REFBUF (in), 22 PD (in), 23 LVDS/~{CMOS} (in), 24 CNV (in), 25 GND (power), 26 SDI+ (in), 27 SDI- (in), 28 SCKI+ (in), 29 SCKI-/SCKI (in), 30 GND (power), 31 OVDD (in), 32 SCKO+/SCKO (out), 33 SCKO-/SDO (out), 34 SDO+ (out), 35 SDO- (out), 36 GND (power), 37 SDI (in), 38 BUSY (in), 39 ~{CS} (in), 40 VDDLBYP (power), 41 GND (power), 42 VDD (power), 43 VDD (power), 44 GND (power), 45 VEE (power), 46 GND (power), 47 IN7- (in), 48 IN7+ (in)
2 alternate drawings of the same symbol

## LTC2360CTS8
designator IC?
100ksps, 12-Bit Serial ADC
pins: 1 VDD (power), 2 VREF (in), 3 GND (power), 4 AIN (in), 5 OVDD (power), 6 SDO (out), 7 SCK (in), 8 CONV (in)

## LTC2378CMS-20
designator IC?
20-Bit, 1Msps, Low Power SAR ADC with 0.5ppm INL
pins: 1 CHAIN (in), 2 VDD (power), 3 GND (power), 4 IN+ (in), 5 IN- (in), 6 GND (power), 7 REF (in), 8 REF/~{DGC} (in), 9 CNV (in), 10 GND (power), 11 BUSY (out), 12 RDL/SDI (in), 13 SCK (in), 14 SDO (hiz), 15 OVDD (power), 16 GND (power)

## LTC2378IMS-20
designator IC?
20-Bit, 1Msps, Low Power SAR ADC with 0.5ppm INL
pins: 1 CHAIN (in), 2 VDD (power), 3 GND (power), 4 IN+ (in), 5 IN- (in), 6 GND (power), 7 REF (in), 8 REF/~{DGC} (in), 9 CNV (in), 10 GND (power), 11 BUSY (out), 12 RDL/SDI (in), 13 SCK (in), 14 SDO (hiz), 15 OVDD (power), 16 GND (power)

## LTC2380IMS-24
designator IC?
24-Bit, 1.5Msps/2Msps, Low Power SAR ADC with Integrated Digital Filter
pins: 1 CHAIN (in), 2 VDD (power), 3 GND (power), 4 IN+ (in), 5 IN- (in), 6 GND (power), 7 REF (in), 8 REF/~{DGC} (in), 9 CNV (in), 10 GND (power), 11 BUSY (out), 12 RDL/SDI (in), 13 SCK (in), 14 SDO (hiz), 15 OVDD (power), 16 GND (power)

## LTC2418CGN
designator IC?
16-Channel 24-Bit No Latency Delta Sigma ADC
pins: 1 CH8 (in), 2 CH9 (in), 3 CH10 (in), 4 CH11 (in), 5 CH12 (in), 6 CH13 (in), 7 CH14 (in), 8 CH15 (in), 9 VCC (power), 10 COM (power), 11 REF+ (in), 12 REF- (in), 13 NC, 14 NC, 15 GND (power), 16 ~{CS} (in), 17 SDO (out), 18 SCK (io), 19 FO (in), 20 SDI (in), 21 CH0 (in), 22 CH1 (in), 23 CH2 (in), 24 CH3 (in), 25 CH4 (in), 26 CH5 (in), 27 CH6 (in), 28 CH7 (in)

## LTC2440
designator IC?
24-Bit High Speed Differential Delta Sigma ADC with Selectable Speed/Resolution
pins: 1 GND (power), 2 VCC (power), 3 REF+ (in), 4 REF- (in), 5 IN+ (in), 6 IN- (in), 7 SDI (in), 8 GND (power), 9 GND (power), 10 ~{EXT} (in), 11 ~{CS} (in), 12 SDO (out), 13 SCK (in), 14 FO (in), 15 BUSY (out), 16 GND (power)

## LTC2450
designator IC?
Easy-to-Use, Ultra-Tiny 16-Bit Delta/Sigma ADC
pins: 1 VCC (power), 2 VIN (in), 3 GND (power), 4 ~{CS} (in), 5 SDO (out), 6 SCK (in), 7 EP (power)

## LTC2600CGN
designator IC?
Octal 16-Bit Rail-to-Rail DAC
pins: 1 GND (power), 2 VOUTA (out), 3 VOUTB (out), 4 VOUTC (out), 5 VOUTD (out), 6 REF (in), 7 ~{CS}/LD (in), 8 SCK (in), 9 SDI (in), 10 SDO (out), 11 ~{CLR} (in), 12 VOUTE (out), 13 VOUTF (out), 14 VOUTG (out), 15 VOUTH (out), 16 VCC (power)

## LTC2620CGN
designator IC?
Octal 12-Bit Rail-to-Rail DAC
pins: 1 GND (power), 2 VOUTA (out), 3 VOUTB (out), 4 VOUTC (out), 5 VOUTD (out), 6 REF (in), 7 ~{CS}/LD (in), 8 SCLK (in), 9 SDI (in), 10 SDO (out), 11 ~{CLR} (in), 12 VOUTE (out), 13 VOUTF (out), 14 VOUTG (out), 15 VOUTH (out), 16 VCC (power)

## LTC2635xUD
designator IC?
Quad 8-Bit I2C VOUT DACs With 10ppm/°C Reference
pins: 1 VOUTA (out), 2 VOUTB (out), 3 ~{LDAC} (in), 4 CA0 (in), 5 SCL (in), 6 DNC, 7 CA2 (in), 8 SDA (io), 9 CA1 (in), 10 REF (io), 11 VOUTC (out), 12 VOUTD (out), 13 REFLO (in), 14 GND (power), 15 DNC, 16 VCC (power), 17 GND (power)

## LTC2637xMS
designator IC?
Octal 8-Bit I2C VOUT DACs With 10ppm/°C Reference
pins: 1 VCC (power), 2 VOUTA (out), 3 VOUTB (out), 4 VOUTC (out), 5 VOUTD (out), 6 CA2 (in), 7 CA0 (in), 8 SCL (in), 9 SDA (io), 10 CA1 (in), 11 REF (in), 12 VOUTE (out), 13 VOUTF (out), 14 VOUTG (out), 15 VOUTH (out), 16 GND (power)

## LTC2641CMS8
designator IC?
16-Bit Voltage Output DAC
pins: 1 REF (in), 2 ~{CS} (in), 3 SCLK (in), 4 DIN (in), 5 ~{CLR} (in), 6 VOUT (out), 7 VDD (power), 8 GND (power)

## LTC2641CS8
designator IC?
16-Bit Voltage Output DAC
pins: 1 VOUT (out), 2 GND (power), 3 REF (in), 4 ~{CS} (in), 5 SCLK (in), 6 DIN (in), 7 GND (power), 8 VDD (power)

## LTC2668IUJ-16
designator IC?
16-Channel 16-Bit ±10V VOUT SoftSpan DAC with 10ppm/°C Max Reference
pins: 1 MSP2 (in), 2 VOUT0 (out), 3 VOUT1 (out), 4 VOUT2 (out), 5 VOUT3 (out), 6 VOUT4 (out), 7 VOUT5 (out), 8 VOUT6 (out), 9 VOUT7 (out), 10 V+ (power), 11 V- (power), 12 MUX (out), 13 REFLO (in), 14 GND (power), 15 ~{LDAC} (in), 16 ~{CS}/LD (in), 17 SCK (in), 18 SDO (out), 19 SDI (in), 20 TGP (in), 21 ~{CLR} (in), 22 OVP (io), 23 VOUT8 (out), 24 VOUT9 (out), 25 VOUT10 (out), 26 VOUT11 (out), 27 VOUT12 (out), 28 VOUT13 (out), 29 VOUT14 (out), 30 VOUT15 (out), 31 V+ (power), 32 V- (power), 33 REF (in), 34 REFCOMP (in), 35 REFLO (in), 36 AVP (power), 37 GND (power), 38 ~{OVRTMP} (out), 39 MSP0 (in), 40 MSP1 (in), 41 V- (power)

## LTC2757ACLX
designator IC?
18-Bit SoftSpan IOUT DAC with Parallel I/O
pins: 1 RIN (in), 2 RIN (in), 3 S2 (io), 4 GND (power), 5 IOUT2S (out), 6 IOUT2F (out), 7 GND (power), 8 D17 (io), 9 D16 (io), 10 D15 (io), 11 D14 (io), 12 D13 (io), 13 D12 (io), 14 D11 (io), 15 D10 (io), 16 D9 (io), 17 VDD (power), 18 GND (power), 19 GND (power), 20 ~{CLR} (in), 21 M-SPAN (in), 22 DNC, 23 D8 (io), 24 D7 (io), 25 D6 (io), 26 D5 (io), 27 D4 (io), 28 D3 (io), 29 D2 (io), 30 D1 (io), 31 D0 (io), 32 DNC, 33 ~{D}/S (in), 34 READ (in), 35 UPD (in), 36 ~{WR} (in), 37 S0 (io), 38 S1 (io), 39 VOSADJ (in), 40 IOUT1 (out), 41 RFB (in), 42 RFB (in), 43 R0FS (in), 44 R0FS (in), 45 REF (in), 46 REF (in), 47 RCOM (in), 48 GEADJ (in)
2 alternate drawings of the same symbol

## LTC2873
designator IC?
Single-Bus RS485/RS232 Multiprotocol Transceiver with Switchable Termination
pins: 1 VEE (power), 2 RO (io), 3 485/~{232} (in), 4 ~{RE485} (in), 5 DE485/F232 (in), 6 DI (io), 7 ~{SHDN} (in), 8 GND (power), 9 CAP (in), 10 VEE (power), 11 GND (power), 12 SW (in), 13 VDD (power), 14 VCC (power), 15 B/RI (io), 16 GND (power), 17 A/DO (io), 18 VCC (power), 19 NC, 20 GND (power), 21 VCC (power), 22 VL (in), 23 LB (in), 24 ~{TE485} (in), 25 VEE (power)

## LTC2909xTS
designator IC?
Precision Triple/Dual Input UV, OV and Negative Voltage Monitor
pins: 1 ADJ1 (in), 2 ADJ2 (in), 3 REF (in), 4 GND (power), 5 ~{RST} (in), 6 VCC (power), 7 TMR (in), 8 SEL (in)

## LTC2912ITS8-2
designator IC?
Single UV/OV Voltage Monitor
pins: 1 DIS (in), 2 ~{UV} (out), 3 ~{OV} (out), 4 GND (power), 5 ~{TMR}, 6 VL (in), 7 VH (in), 8 VCC (power)

## LTC2914
designator IC?
Quad UV/OV Positive/Negative Voltage Monitor
pins: 1 VH1 (in) "Voltage High Inputs 1 and 2. When the voltage on this pin is below 0.5V, an undervoltage condition is triggered. Tie pin to VCC if unused.", 2 VL1 (in) "Voltage Low Inputs 1 and 2. When the voltage on this pin is above 0.5V, an overvoltage condition is triggered. Tie pin to GND if unused.", 3 VH2 (in) "Voltage High Inputs 1 and 2. When the voltage on this pin is below 0.5V, an undervoltage condition is triggered. Tie pin to VCC if unused.", 4 VL2 (in) "Voltage Low Inputs 1 and 2. When the voltage on this pin is above 0.5V, an overvoltage condition is triggered. Tie pin to GND if unused.", 5 VH3 (in) "Voltage High Inputs 3 and 4. The polarity of the input is selected by the state of the SEL pin (refer to Table 1). When the monitored input is confi gured as a positive voltage, an undervoltage condition is triggered when (See Datasheet)", 6 VL3 (in) "Voltage Low Inputs 3 and 4. The polarity of the input is selected by the state of the SEL pin (refer to Table 1). When the monitored input is confi gured as a positive voltage, an overvoltage condition is triggered when the (See Datasheet)", 7 VH4 (in) "Voltage High Inputs 3 and 4. The polarity of the input is selected by the state of the SEL pin (refer to Table 1). When the monitored input is confi gured as a positive voltage, an undervoltage condition is triggered when (See Datasheet)", 8 VL4 (in) "Voltage Low Inputs 3 and 4. The polarity of the input is selected by the state of the SEL pin (refer to Table 1). When the monitored input is confi gured as a positive voltage, an overvoltage condition is triggered when the (See Datasheet)", 9 GND (power) "Device Ground", 10 REF (out) "Buffered Reference Output. 1V reference used for the offset of negative-monitoring applications. The buffered reference sources and sinks up to 1mA. The reference drives capacitive loads up to 1nF. Larger capacitive loads (See Datasheet)", 11 ~{OV} (oc) "Overvoltage Logic Output. Asserts low when any positive polarity input voltage is above threshold or any negative polarity input voltage is below threshold. Latched low (LTC2914-1). Held low for an adjustable delay time (See Datasheet)", 12 ~{UV} (oc) "Undervoltage Logic Output. Asserts low when any positive polarity input voltage is below threshold or any negative polarity input voltage is above threshold. Held low for an adjustable delay time after all voltage inputs are (See Datasheet)", 13 ~{LATCH}/DIS (in) "O\V\ Latch Clear/Bypass Input. When pulled low, O\V\ is latched when asserted. When pulled high, O\V\ latch is cleared. While held high, O\V\ has the same delay and output characteristics as U\V\.", 14 SEL (in) "Input Polarity Select Three-State Input. Connect to VCC, GND or leave unconnected in open state to select one of three possible input polarity combinations (refer to Table 1).", 15 TMR (in) "Reset Delay Timer. Attach an external capacitor (CTMR) of at least 10pF to GND to set a reset delay time of 9ms/nF. A 1nF capacitor will generate an 8.5ms reset delay time. Tie pin to VCC to bypass timer.", 16 VCC (power) "Supply Voltage. Bypass this pin to GND with a 0.1uF (or greater) capacitor. Operates as a direct supply input for voltages up to 6V. Operates as a shunt regulator for supply voltages greater than 6V and must have a (See Datasheet)"

## LTC2917
designator IC?
Voltage Supervisor with 27 Selectable Thresholds and Watchdog Timer
pins: 1 GND (power), 2 TOL (in), 3 SEL2 (in), 4 SEL1 (in), 5 VM (in), 6 VCC (power), 7 WDI (in), 8 WT (in), 9 RT (in), 10 ~{RST} (out)

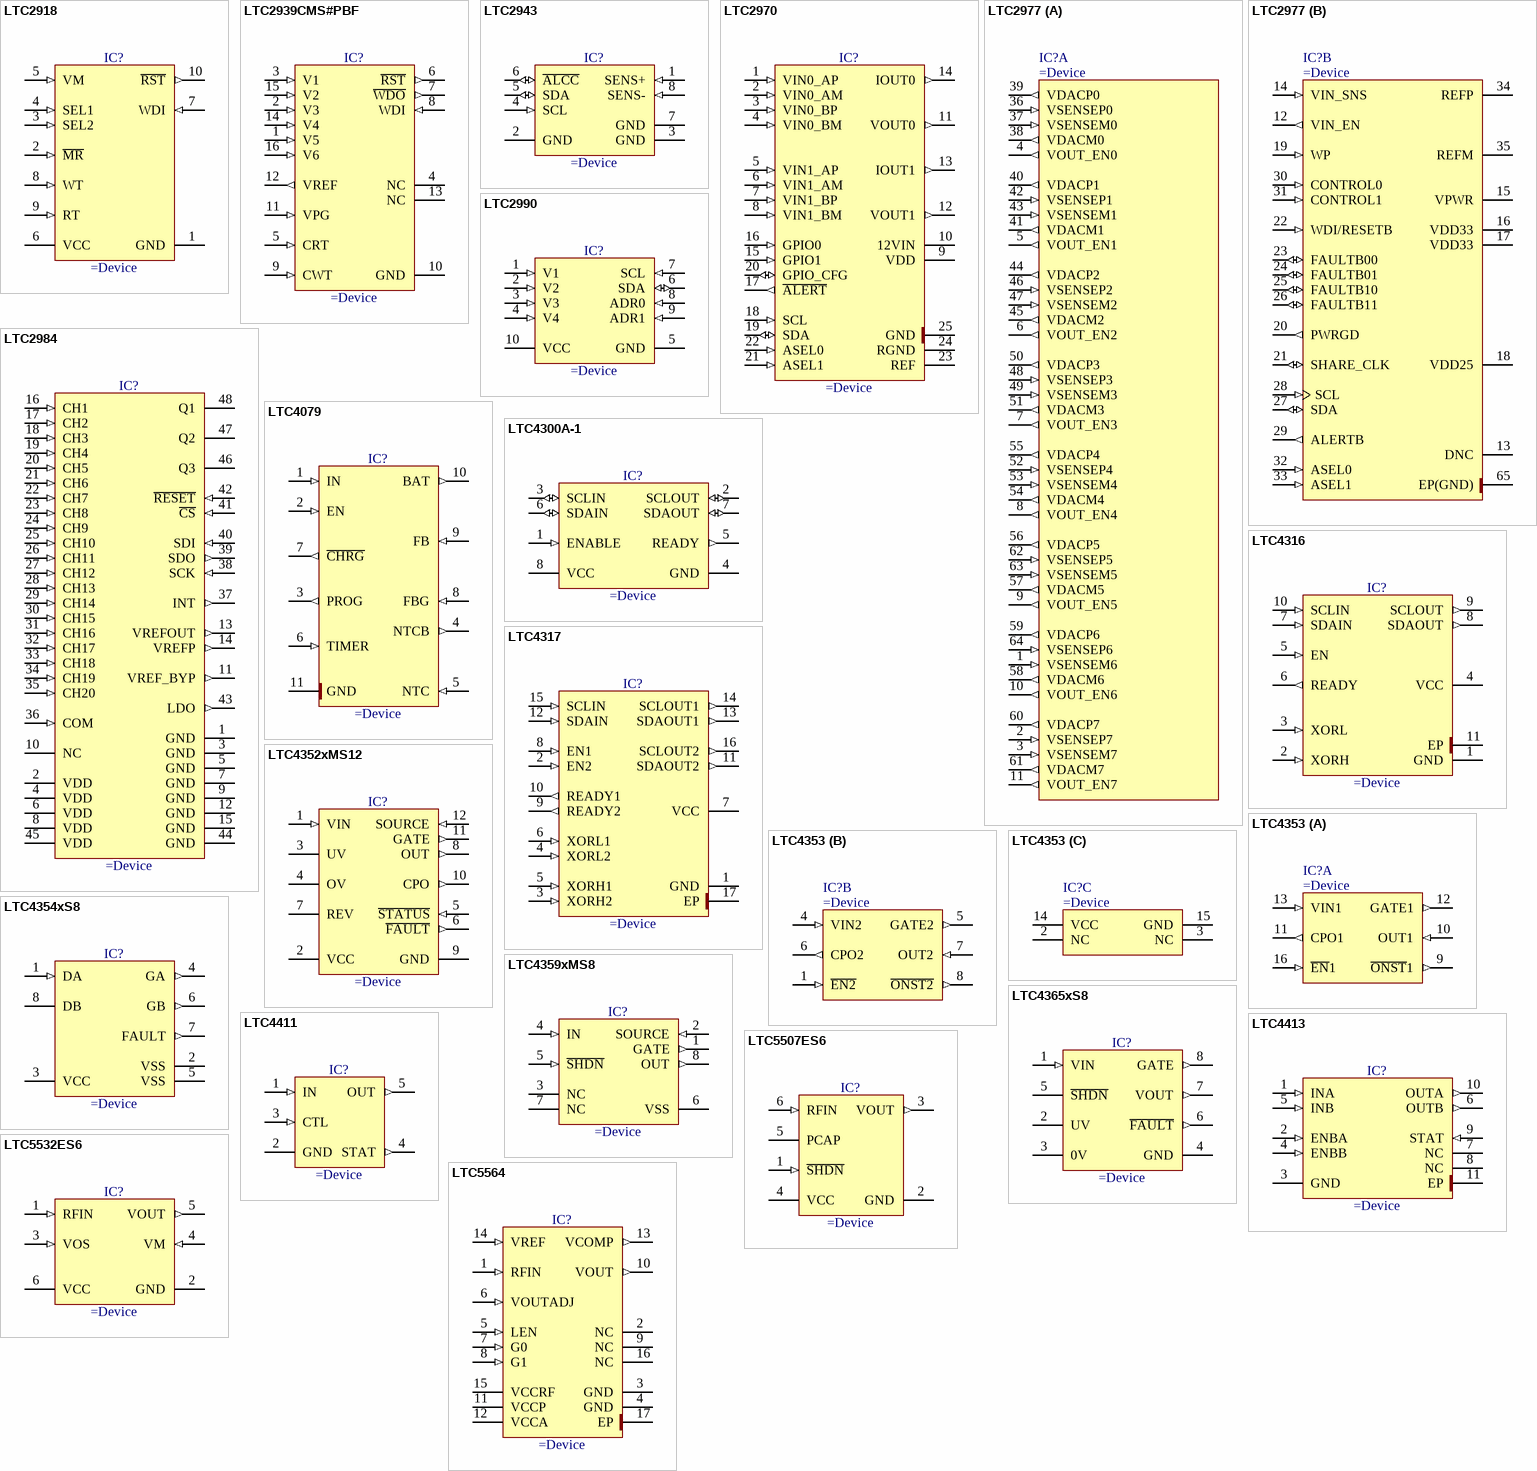
[diagram p43: symbols LTC2918 to LTC5564]

## LTC2918
designator IC?
Voltage Supervisor with 27 Selectable Thresholds and Watchdog Timer
pins: 1 GND (power), 2 ~{MR} (in), 3 SEL2 (in), 4 SEL1 (in), 5 VM (in), 6 VCC (power), 7 WDI (in), 8 WT (in), 9 RT (in), 10 ~{RST} (out)

## LTC2939CMS#PBF
designator IC?
Configurable 4- and 6-Supply Monitors with Watchdog Timer
pins: 1 V5 (in), 2 V3 (in), 3 V1 (in), 4 NC, 5 CRT (in), 6 ~{RST} (out), 7 ~{WDO} (out), 8 WDI (in), 9 CWT (in), 10 GND (power), 11 VPG (in), 12 VREF (out), 13 NC, 14 V4 (in), 15 V2 (in), 16 V6 (in)

## LTC2943
designator IC?
Multicell Battery Gas Gauge with Temperature, Voltage and Current Measurement
pins: 1 SENS+ (in), 2 GND (power), 3 GND (power), 4 SCL (in), 5 SDA (io), 6 ~{ALCC} (io), 7 GND (power), 8 SENS- (in)

## LTC2970
designator IC?
Dual I2C Power Supply Monitor and Margining Controller
pins: 1 VIN0_AP (in), 2 VIN0_AM (in), 3 VIN0_BP (in), 4 VIN0_BM (in), 5 VIN1_AP (in), 6 VIN1_AM (in), 7 VIN1_BP (in), 8 VIN1_BM (in), 9 VDD (power), 10 12VIN (power), 11 VOUT0 (out), 12 VOUT1 (out), 13 IOUT1 (out), 14 IOUT0 (out), 15 GPIO1 (in), 16 GPIO0 (in), 17 ~{ALERT} (out), 18 SCL (in), 19 SDA (io), 20 GPIO_CFG (io), 21 ASEL1 (in), 22 ASEL0 (in), 23 REF, 24 RGND (power), 25 GND (power)

## LTC2977
designator IC?
8-Channel PMBus Power System Manager Featuring Accurate Output Voltage Measurement
part A pins: 1 VSENSEM6 (in) "DC/DC Converter Differential (-) Output Voltage-6 Sensing Pin", 2 VSENSEP7 (in) "DC/DC Converter Differential (+) Output Voltage or Current-7 Sensing Pin", 3 VSENSEM7 (in) "DC/DC Converter Differential (-) Output Voltage or Current-7 Sensing Pin", 4 VOUT_EN0 (out) "DC/DC Converter Enable-0 Pin. Output High Voltage Optionally Pulled Up to 12V by 5uA", 5 VOUT_EN1 (out) "DC/DC Converter Enable-1 Pin. Output High Voltage Optionally Pulled Up to 12V by 5uA", 6 VOUT_EN2 (out) "DC/DC Converter Enable-2 Pin. Output High Voltage Optionally Pulled Up to 12V by 5uA", 7 VOUT_EN3 (out) "DC/DC Converter Enable-3 Pin. Output High Voltage Optionally Pulled Up to 12V by 5uA", 8 VOUT_EN4 (out) "DC/DC Converter Open-Drain Pull-Down Output-4", 9 VOUT_EN5 (out) "DC/DC Converter Open-Drain Pull-Down Output-5", 10 VOUT_EN6 (out) "DC/DC Converter Open-Drain Pull-Down Output-6", 11 VOUT_EN7 (out) "DC/DC Converter Open-Drain Pull-Down Output-7", 36 VSENSEP0 (in) "DC/DC Converter Differential (+) Output Voltage-0 Sensing Pin", 37 VSENSEM0 (in) "DC/DC Converter Differential (-) Output Voltage-0 Sensing Pin", 38 VDACM0 (out) "DAC0 Return. Connect to Channel 0 DC/DC Converter's GND Sense or Return to GND.", 39 VDACP0 (out) "DAC0 Output", 40 VDACP1 (out) "DAC1 Output", 41 VDACM1 (out) "DAC1 Return. Connect to Channel 1 DC/DC Converter's GND Sense or Return to GND.", 42 VSENSEP1 (in) "DC/DC Converter Differential (+) Output Voltage or Current-1 Sensing Pins", 43 VSENSEM1 (in) "DC/DC Converter Differential (-) Output Voltage or Current-1 Sensing Pins", 44 VDACP2 (out) "DAC2 Output", 45 VDACM2 (out) "DAC2 Return. Connect to Channel 2 DC/DC Converter's GND Sense or Return to GND.", 46 VSENSEP2 (in) "DC/DC Converter Differential (+) Output Voltage-2 Sensing Pin", 47 VSENSEM2 (in) "DC/DC Converter Differential (-) Output Voltage-2 Sensing Pin", 48 VSENSEP3 (in) "DC/DC Converter Differential (+) Output Voltage or Current-3 Sensing Pins", 49 VSENSEM3 (in) "DC/DC Converter Differential (-) Output Voltage or Current-3 Sensing Pins", 50 VDACP3 (out) "DAC3 Output", 51 VDACM3 (out) "DAC3 Return. Connect to Channel 3 DC/DC Converter's GND Sense or Return to GND.", 52 VSENSEP4 (in) "DC/DC Converter Differential (+) Output Voltage-4 Sensing Pin", 53 VSENSEM4 (in) "DC/DC Converter Differential (-) Output Voltage-4 Sensing Pin", 54 VDACM4 (out) "DAC4 Return. Connect to Channel 4 DC/DC Converter's GND Sense or Return to GND.", 55 VDACP4 (out) "DAC4 Output", 56 VDACP5 (out) "DAC5 Output", 57 VDACM5 (out) "DAC5 Return. Connect to Channel 5 DC/DC Converter's GND Sense or Return to GND.", 58 VDACM6 (out) "DAC6 Return. Connect to Channel 6 DC/DC Converter's GND Sense or Return to GND.", 59 VDACP6 (out) "DAC6 Output", 60 VDACP7 (out) "DAC7 Output", 61 VDACM7 (out) "DAC7 Return. Connect to Channel 7 DC/DC Converter's GND Sense or Return to GND.", 62 VSENSEP5 (in) "DC/DC Converter Differential (+) Output Voltage or Current-5 Sensing Pins", 63 VSENSEM5 (in) "DC/DC Converter Differential (-) Output Voltage or Current-5 Sensing Pins", 64 VSENSEP6 (in) "DC/DC Converter Differential (+) Output Voltage-6 Sensing Pin"
part B pins: 12 VIN_EN (out) "DC/DC Converter VIN ENABLE Pin. Output High Voltage Optionally Pulled Up to 12V by 5uA", 13 DNC "Do Not Connect to This Pin", 14 VIN_SNS (in) "VIN SENSE Input. This Voltage is Compared Against the VIN On and Off Voltage Thresholds in Order to Determine When to Enable and Disable, Respectively, the Downstream DC/DC Converters.", 15 VPWR (power) "VPWR Serves as the Unregulated Power Supply Input to the Chip (4.5V to 15V). If a 4.5V to 15V Supply Voltage is Unavailable, Short VPWR to VDD33 and Power the Chip Directly from a 3.3V Supply. Bypass to GND with 0.1uF (See Datasheet)", 16 VDD33 (power) "If Shorted to VPWR, it Serves as 3.13V to 3.47V Supply Input Pin. Otherwise, it is a 3.3V Internally Regulated Voltage Output (Use 0.1uF Decoupling Capacitor to GND).", 17 VDD33 (power) "Input for Internal 2.5V Sub-Regulator. Short This Pin to Pin 16.", 18 VDD25 (power) "2.5V Internally Regulated Voltage Output. Bypass to GND with a 0.1uF Capacitor.", 19 WP (in) "Digital Input. Write-Protect Input Pin, Active High.", 20 PWRGD (out) "Power Good Open-Drain Output. Indicates When Outputs are Power Good. Can be Used as System Power-On Reset.", 21 SHARE_CLK (io) "Bidirectional Clock Sharing Pin. Connect a 5.49k Pull-Up Resistor to VDD33.", 22 WDI/RESETB (in) "Watchdog Timer Interrupt and Chip Reset Input. Connect a 10k Pull-Up Resistor to VDD33. Rising Edge Resets Watchdog Counter. Holding This Pin Low for More Than tRESETB Resets the Chip.", 23 FAULTB00 (io) "Open-Drain Output and Digital Input. Active Low Bidirectional Fault Indicator-00. Connect a 10k Pull-Up Resistor to VDD33.", 24 FAULTB01 (io) "Open-Drain Output and Digital Input. Active Low Bidirectional Fault Indicator-01. Connect a 10k Pull-Up Resistor to VDD33.", 25 FAULTB10 (io) "Open-Drain Output and Digital Input. Active Low Bidirectional Fault Indicator-10. Connect a 10k Pull-Up Resistor to VDD33.", 26 FAULTB11 (io) "Open-Drain Output and Digital Input. Active Low Bidirectional Fault Indicator-11. Connect a 10k Pull-Up Resistor to VDD33.", 27 SDA (io) "PMBus Bidirectional Serial Data Pin", 28 SCL (in) "PMBus Serial Clock Input Pin (400kHz Maximum)", 29 ALERTB (out) "Open-Drain Output. Generates an Interrupt Request in a Fault/Warning Situation.", 30 CONTROL0 (in) "Control Pin 0 Input", 31 CONTROL1 (in) "Control Pin 1 Input", 32 ASEL0 (in) "Ternary Address Select Pin 0 Input. Connect to VDD33, GND or Float to Encode 1 of 3 Logic States.", 33 ASEL1 (in) "Ternary Address Select Pin 1 Input. Connect to VDD33, GND or Float to Encode 1 of 3 Logic States.", 34 REFP "Reference Voltage Output. Needs 0.1uF Decoupling Capacitor to REFM.", 35 REFM "Reference Return Pin. Needs 0.1uF Decoupling Capacitor to REFP.", 65 EP(GND) (power) "Exposed Pad, Must be Soldered to PCB"

## LTC2984
designator IC?
Multi-Sensor High Accuracy Digital Temperature Measurement System With EEPROM
pins: 1 GND (power), 2 VDD (power), 3 GND (power), 4 VDD (power), 5 GND (power), 6 VDD (power), 7 GND (power), 8 VDD (power), 9 GND (power), 10 NC, 11 VREF_BYP (out), 12 GND (power), 13 VREFOUT (out), 14 VREFP (out), 15 GND (power), 16 CH1 (in), 17 CH2 (in), 18 CH3 (in), 19 CH4 (in), 20 CH5 (in), 21 CH6 (in), 22 CH7 (in), 23 CH8 (in), 24 CH9 (in), 25 CH10 (in), 26 CH11 (in), 27 CH12 (in), 28 CH13 (in), 29 CH14 (in), 30 CH15 (in), 31 CH16 (in), 32 CH17 (in), 33 CH18 (in), 34 CH19 (in), 35 CH20 (in), 36 COM (in), 37 INT (out), 38 SCK (in), 39 SDO (out), 40 SDI (in), 41 ~{CS} (in), 42 ~{RESET} (in), 43 LDO (out), 44 GND (power), 45 VDD (power), 46 Q3, 47 Q2, 48 Q1

## LTC2990
designator IC?
Quad I2C Voltage, Current and Temperature Monitor
pins: 1 V1 (in), 2 V2 (in), 3 V3 (in), 4 V4 (in), 5 GND (power), 6 SDA (io), 7 SCL (in), 8 ADR0 (in), 9 ADR1 (in), 10 VCC (power)

## LTC4079
designator IC?
60V, 250mA Linear Charger with Low Quiescent Current
pins: 1 IN (in), 2 EN (in), 3 PROG (out), 4 NTCB (out), 5 NTC (in), 6 TIMER (in), 7 ~{CHRG} (out), 8 FBG (in), 9 FB (in), 10 BAT (out), 11 GND (power)

## LTC4300A-1
designator IC?
Hot Swappable 2-Wire Bus Buffers
pins: 1 ENABLE (in), 2 SCLOUT (io), 3 SCLIN (io), 4 GND (power), 5 READY (out), 6 SDAIN (io), 7 SDAOUT (io), 8 VCC (power)

## LTC4316
designator IC?
Single I2C/SMBus Address Translator
pins: 1 GND (power), 2 XORH (in), 3 XORL (in), 4 VCC (power), 5 EN (in), 6 READY (out), 7 SDAIN (in), 8 SDAOUT (out), 9 SCLOUT (out), 10 SCLIN (in), 11 EP (power)

## LTC4317
designator IC?
Dual I2C/SMBus Address Translator
pins: 1 GND (power), 2 EN2 (in), 3 XORH2 (in), 4 XORL2 (in), 5 XORH1 (in), 6 XORL1 (in), 7 VCC (power), 8 EN1 (in), 9 READY2 (out), 10 READY1 (out), 11 SDAOUT2 (out), 12 SDAIN (in), 13 SDAOUT1 (out), 14 SCLOUT1 (out), 15 SCLIN (in), 16 SCLOUT2 (out), 17 EP (power)

## LTC4352xMS12
designator IC?
Low Voltage Ideal Diode Controller with Monitoring
pins: 1 VIN (in), 2 VCC (power), 3 UV, 4 OV, 5 ~{STATUS} (in), 6 ~{FAULT} (out), 7 REV, 8 OUT (out), 9 GND (power), 10 CPO (out), 11 GATE (out), 12 SOURCE (in)

## LTC4353
designator IC?
Low Voltage Ideal Diode Controller
part A pins: 9 ~{ONST}1 (out), 10 OUT1 (in), 11 CPO1 (out), 12 GATE1 (out), 13 VIN1 (in), 16 ~{EN}1 (in)
part B pins: 1 ~{EN2} (in), 4 VIN2 (in), 5 GATE2 (out), 6 CPO2 (out), 7 OUT2 (in), 8 ~{ONST2} (out)
part C pins: 2 NC, 3 NC, 14 VCC (power), 15 GND (power)

## LTC4354xS8
designator IC?
Negative Voltage Diode-OR Controller and Monitor
pins: 1 DA (in), 2 VSS (power), 3 VCC (power), 4 GA (out), 5 VSS (power), 6 GB (out), 7 FAULT (out), 8 DB

## LTC4359xMS8
designator IC?
Ideal Diode Controller with Reverse Input Protection
pins: 1 GATE (out), 2 SOURCE (in), 3 NC, 4 IN (in), 5 ~{SHDN} (in), 6 VSS (power), 7 NC, 8 OUT (out)

## LTC4365xS8
designator IC?
Overvoltage, Undervoltage ans Reverse Supply Protection Controller
pins: 1 VIN (in), 2 UV, 3 0V, 4 GND (power), 5 ~{SHDN}, 6 ~{FAULT} (out), 7 VOUT (out), 8 GATE (out)

## LTC4411
designator IC?
2.6A Low Loss Ideal Diode in ThinSOT
pins: 1 IN (in), 2 GND (power), 3 CTL (in), 4 STAT (out), 5 OUT (out)

## LTC4413
designator IC?
Dual 2.6A, 2.5V to 5.5V,  Ideal Diodes in 3mm×3mm DFN
pins: 1 INA (in), 2 ENBA (in), 3 GND (power), 4 ENBB (in), 5 INB (in), 6 OUTB (out), 7 NC, 8 NC, 9 STAT (in), 10 OUTA (out), 11 EP (power)

## LTC5507ES6
designator IC?
100kHz to 1GHz RF Power Detector
pins: 1 ~{SHDN} (in), 2 GND (power), 3 VOUT (out), 4 VCC (power), 5 PCAP, 6 RFIN (in)

## LTC5532ES6
designator IC?
Precision 300MHz to 7GHz RF Detector with Gain and Offset Adjustment
pins: 1 RFIN (in), 2 GND (power), 3 VOS (in), 4 VM (in), 5 VOUT (out), 6 VCC (power)

## LTC5564
designator IC?
UltraFast 7ns Response Time 15GHz RF Power Detector with Comparator
pins: 1 RFIN (in), 2 NC, 3 GND (power), 4 GND (power), 5 LEN (in), 6 VOUTADJ (in), 7 G0 (in), 8 G1 (in), 9 NC, 10 VOUT (out), 11 VCCP (power), 12 VCCA (power), 13 VCOMP (out), 14 VREF (in), 15 VCCRF (power), 16 NC, 17 EP (power)

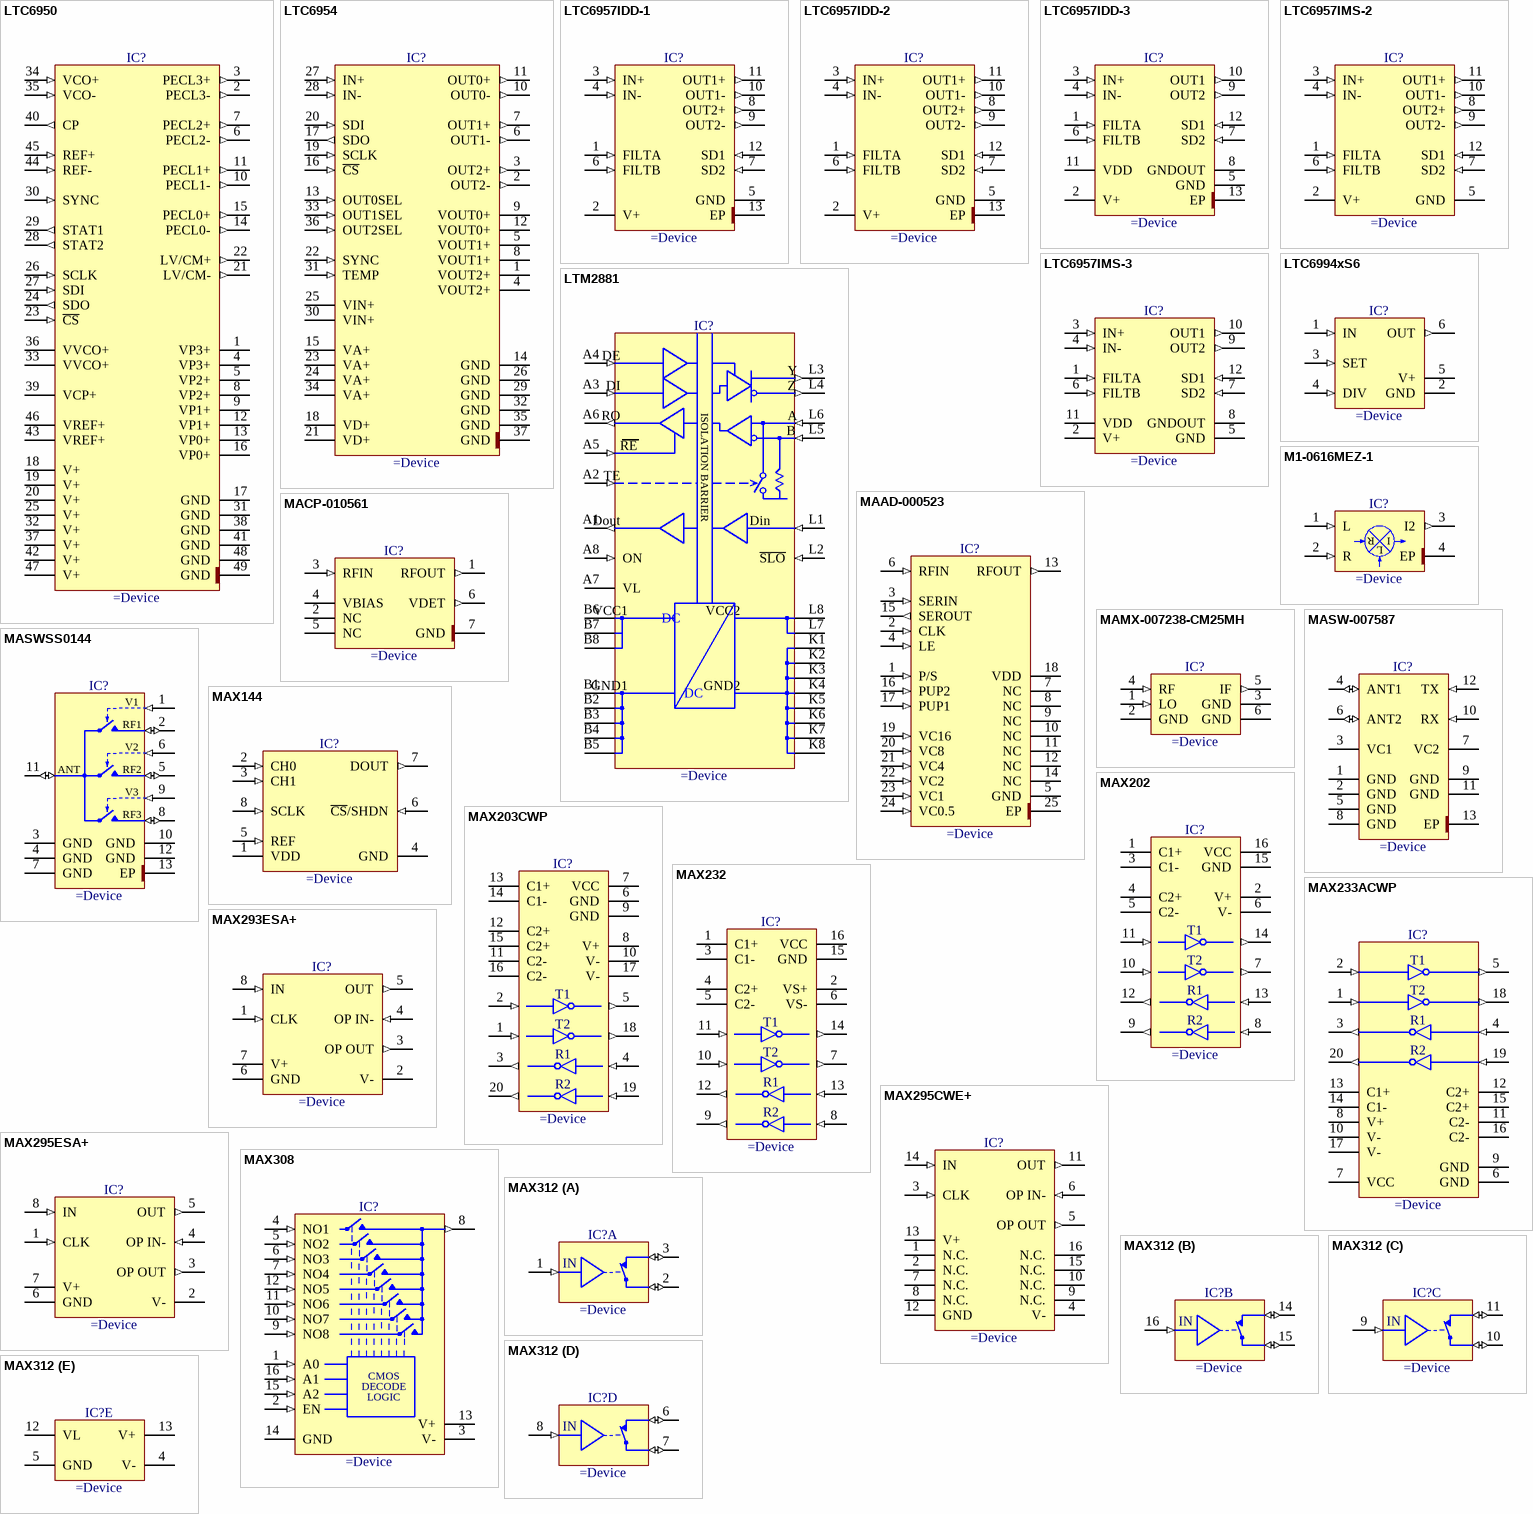
[diagram p44: symbols LTC6950 to MAX312]

## LTC6950
designator IC?
1.4GHz Low Phase Noise, Low Jitter PLL with Clock Distribution
pins: 1 VP3+ (power), 2 PECL3- (out), 3 PECL3+ (out), 4 VP3+ (power), 5 VP2+ (power), 6 PECL2- (out), 7 PECL2+ (out), 8 VP2+ (power), 9 VP1+ (power), 10 PECL1- (out), 11 PECL1+ (out), 12 VP1+ (power), 13 VP0+ (power), 14 PECL0- (out), 15 PECL0+ (out), 16 VP0+ (power), 17 GND (power), 18 V+ (power), 19 V+ (power), 20 V+ (power), 21 LV/CM- (out), 22 LV/CM+ (out), 23 ~{CS} (in), 24 SDO (out), 25 V+ (power), 26 SCLK (in), 27 SDI (in), 28 STAT2 (out), 29 STAT1 (out), 30 SYNC (in), 31 GND (power), 32 V+ (power), 33 VVCO+ (power), 34 VCO+ (in), 35 VCO- (in), 36 VVCO+ (power), 37 V+ (power), 38 GND (power), 39 VCP+ (power), 40 CP (out), 41 GND (power), 42 V+ (power), 43 VREF+ (power), 44 REF- (in), 45 REF+ (in), 46 VREF+ (power), 47 V+ (power), 48 GND (power), 49 GND (power)

## LTC6954
designator IC?
Low Phase Noise, Triple Output Clock Distribution Divider/Driver
pins: 1 VOUT2+ (power), 2 OUT2- (out), 3 OUT2+ (out), 4 VOUT2+ (power), 5 VOUT1+ (power), 6 OUT1- (out), 7 OUT1+ (out), 8 VOUT1+ (power), 9 VOUT0+ (power), 10 OUT0- (out), 11 OUT0+ (out), 12 VOUT0+ (power), 13 OUT0SEL (in), 14 GND (power), 15 VA+ (power), 16 ~{CS} (in), 17 SDO (out), 18 VD+ (power), 19 SCLK (in), 20 SDI (in), 21 VD+ (power), 22 SYNC (in), 23 VA+ (power), 24 VA+ (power), 25 VIN+ (power), 26 GND (power), 27 IN+ (in), 28 IN- (in), 29 GND (power), 30 VIN+ (power), 31 TEMP (in), 32 GND (power), 33 OUT1SEL (in), 34 VA+ (power), 35 GND (power), 36 OUT2SEL (in), 37 GND (power)

## LTC6957IDD-1
designator IC?
Low Phase Noise, Dual Output Buffer/Driver/Logic Converter, LVPECL Logic Outputs
pins: 1 FILTA (in), 2 V+ (power), 3 IN+ (in), 4 IN- (in), 5 GND (power), 6 FILTB (in), 7 SD2 (in), 8 OUT2+ (out), 9 OUT2- (out), 10 OUT1- (out), 11 OUT1+ (out), 12 SD1 (in), 13 EP (power)

## LTC6957IDD-2
designator IC?
Low Phase Noise, Dual Output Buffer/Driver/Logic Converter, LVDS Logic Outputs
pins: 1 FILTA (in), 2 V+ (power), 3 IN+ (in), 4 IN- (in), 5 GND (power), 6 FILTB (in), 7 SD2 (in), 8 OUT2+ (out), 9 OUT2- (out), 10 OUT1- (out), 11 OUT1+ (out), 12 SD1 (in), 13 EP (power)

## LTC6957IDD-3
designator IC?
Low Phase Noise, Dual Output Buffer/Driver/Logic Converter, CMOS Logic, In-Phase Outputs
pins: 1 FILTA (in), 2 V+ (power), 3 IN+ (in), 4 IN- (in), 5 GND (power), 6 FILTB (in), 7 SD2 (in), 8 GNDOUT (power), 9 OUT2 (out), 10 OUT1 (out), 11 VDD (power), 12 SD1 (in), 13 EP (power)

## LTC6957IMS-2
designator IC?
Low Phase Noise, Dual Output Buffer/Driver/Logic Converter
pins: 1 FILTA (in), 2 V+ (power), 3 IN+ (in), 4 IN- (in), 5 GND (power), 6 FILTB (in), 7 SD2 (in), 8 OUT2+ (out), 9 OUT2- (out), 10 OUT1- (out), 11 OUT1+ (out), 12 SD1 (in)

## LTC6957IMS-3
designator IC?
Low Phase Noise, Dual Output Buffer/Driver/Logic Converter
pins: 1 FILTA (in), 2 V+ (power), 3 IN+ (in), 4 IN- (in), 5 GND (power), 6 FILTB (in), 7 SD2 (in), 8 GNDOUT (power), 9 OUT2 (out), 10 OUT1 (out), 11 VDD (power), 12 SD1 (in)

## LTC6994xS6
designator IC?
TimerBlox: Delay Block/Debouncer
pins: 1 IN (in), 2 GND (power), 3 SET (in), 4 DIV (in), 5 V+ (power), 6 OUT (out)

## LTM2881
designator IC?
Complete Isolated RS485/RS422 uModule Transceiver + Power
pins: A1 DOUT (out), A2 TE (in), A3 DI (in), A4 DE (in), A5 ~{RE} (in), A6 RO (out), A7 VL (power), A8 ON (in), B1 GND1 (power), B2 GND1 (power), B3 GND1 (power), B4 GND1 (power), B5 GND1 (power), B6 VCC1 (power), B7 VCC1 (power), B8 VCC1 (power), K1 GND2 (power), K2 GND2 (power), K3 GND2 (power), K4 GND2 (power), K5 GND2 (power), K6 GND2 (power), K7 GND2 (power), K8 GND2 (power), L1 DIN (in), L2 ~{SLO} (in), L3 Y (out), L4 Z (out), L5 B (in), L6 A (in), L7 VCC2 (power), L8 VCC2 (power)
text: RE; ISOLATION BARRIER; Dout; Din; DC

## M1-0616MEZ-1
designator IC?
Double-Balanced Frequency Mixer - LO/RF 6.0 to 16.0 GHz, IF DC to 4.0 GHz
pins: 1 L (in), 2 R (in), 3 I2 (out), 4 EP (power)
text: I

## MAAD-000523
designator IC?
Digital Attenuator, 6-Bit, Serial / Parallel Control, 31.5 dB, 0.7-6.0 GHz
pins: 1 P/S (in), 2 CLK (in), 3 SERIN (in), 4 LE (in), 5 GND (power), 6 RFIN (in), 7 NC, 8 NC, 9 NC, 10 NC, 11 NC, 12 NC, 13 RFOUT (out), 14 NC, 15 SEROUT (out), 16 PUP2 (in), 17 PUP1 (in), 18 VDD (power), 19 VC16 (in), 20 VC8 (in), 21 VC4 (in), 22 VC2 (in), 23 VC1 (in), 24 VC0.5 (in), 25 EP (power)

## MACP-010561
designator IC?
Temperature Compensated Directional RMS Power Detector, 2-6 GHz
pins: 1 RFOUT (out), 2 NC, 3 RFIN (in), 4 VBIAS, 5 NC, 6 VDET (out), 7 GND (power)

## MAMX-007238-CM25MH
designator IC?
5 to 2500 MHz E-Series Surface Mount Mixer
pins: 1 LO (in), 2 GND (power), 3 GND (power), 4 RF (in), 5 IF (out), 6 GND (power)

## MASW-007587
designator IC?
High Power GaAs DPDT Diversity Switch DC-4.0 GHz
pins: 1 GND (power), 2 GND (power), 3 VC1 (power), 4 ANT1 (io), 5 GND (power), 6 ANT2 (io), 7 VC2 (power), 8 GND (power), 9 GND (power), 10 RX (in), 11 GND (power), 12 TX (in), 13 EP (power)

## MASWSS0144
designator IC?
2.7V GaAs SP3T Switch, DC - 3.0 GHz
pins: 1 V1 (in), 2 RF1 (io), 3 GND (power), 4 GND (power), 5 RF2 (io), 6 V2 (in), 7 GND (power), 8 RF3 (io), 9 V3 (in), 10 GND (power), 11 ANT (io), 12 GND (power), 13 EP (power)

## MAX144
designator IC?
+2.7V, Low-Power, 2-Channel, 108ksps,  Serial 12-Bit ADCs in 8-Pin μMAX
pins: 1 VDD (power), 2 CH0 (in), 3 CH1 (in), 4 GND (power), 5 REF (in), 6 ~{CS}/SHDN (in), 7 DOUT (out), 8 SCLK (in)